# Altium schematic symbol library SamacSys.SchLib: 1311 symbols (part 11 of 14)
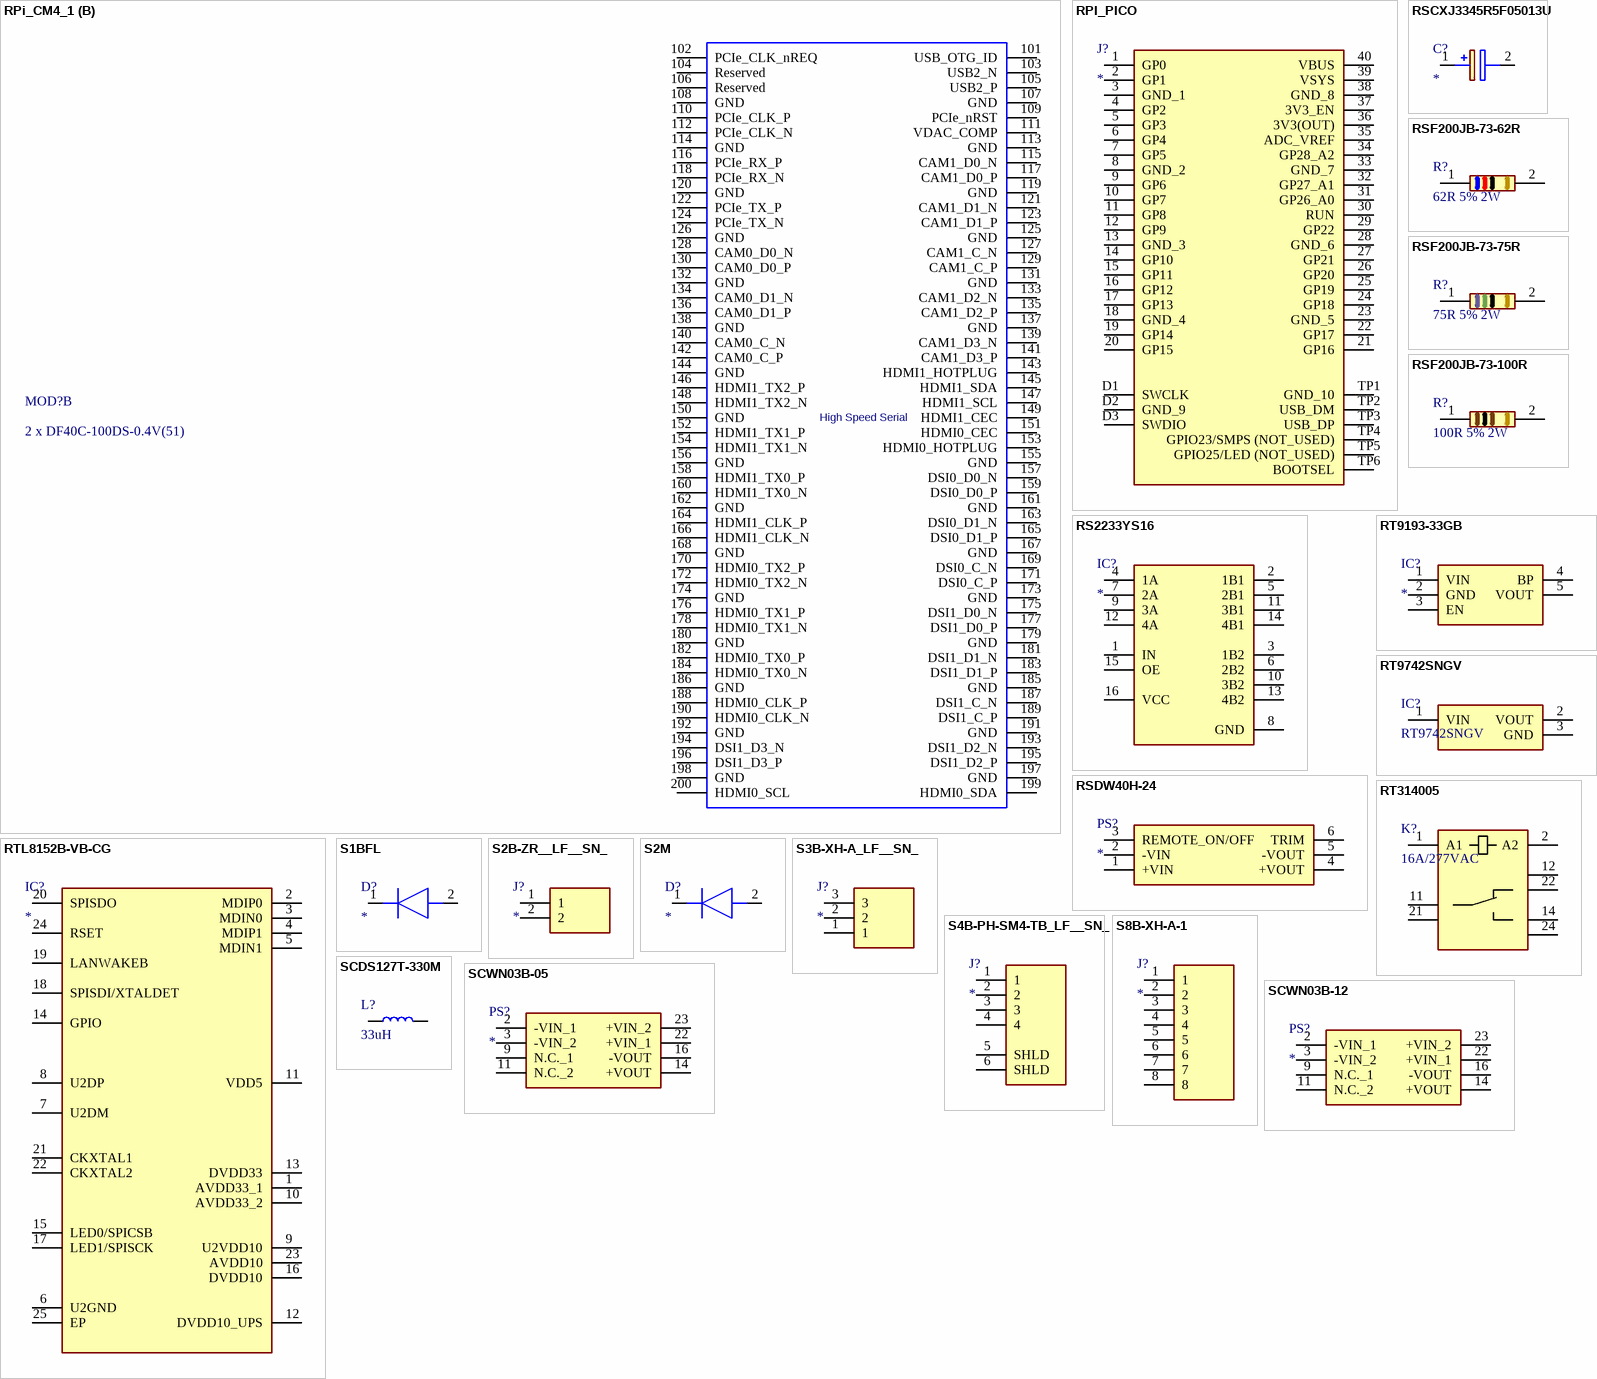
[diagram p60: symbols RPi_CM4_1 to SCWN03B-12]

## RPi_CM4_1
designator MOD?, comment 2 x DF40C-100DS-0.4V(51)
Rapsberry PI Compute Module 4 +
footprint RPI_CM4_con (only connectors)
footprint RPI_CM4_full (with CM4 3D)
footprint RPI_Time4CM4 (2pcs. DF40HC(3.0)-100DS-0.4V)
footprint RPI_CM4_STACKED (with CM4 3D)
part A pins: 1 GND, 2 GND, 3 Ethernet_Pair3_P, 4 Ethernet_Pair1_P, 5 Ethernet_Pair3_N, 6 Ethernet_Pair1_N, 7 GND, 8 GND, 9 Ethernet_Pair2_N, 10 Ethernet_Pair0_N, 11 Ethernet_Pair2_P, 12 Ethernet_Pair0_P, 13 GND, 14 GND, 15 Ethernet_nLED3(3.3v), 16 Ethernet_SYNC_IN(1.8v), 17 Ethernet_nLED2(3.3v), 18 Ethernet_SYNC_OUT(1.8v), 19 Ethernet_nLED1(3.3v), 20 EEPROM_nWP, 21 PI_nLED_Activity, 22 GND, 23 GND, 24 GPIO26, 25 GPIO21, 26 GPIO19, 27 GPIO20, 28 GPIO13, 29 GPIO16, 30 GPIO6, 31 GPIO12, 32 GND, 33 GND, 34 GPIO5, 35 ID_SC, 36 ID_SD, 37 GPIO7, 38 GPIO11, 39 GPIO8, 40 GPIO9, 41 GPIO25, 42 GND, 43 GND, 44 GPIO10, 45 GPIO24, 46 GPIO22, 47 GPIO23, 48 GPIO27, 49 GPIO18, 50 GPIO17, 51 GPIO15, 52 GND, 53 GND, 54 GPIO4, 55 GPIO14, 56 GPIO3, 57 SD_CLK, 58 GPIO2, 59 GND, 60 GND, 61 SD_DAT3, 62 SD_CMD, 63 SD_DAT0, 64 SD_DAT5, 65 GND, 66 GND, 67 SD_DAT1, 68 SD_DAT4, 69 SD_DAT2, 70 SD_DAT7, 71 GND, 72 SD_DAT6, 73 SD_VDD_Override, 74 GND, 75 SD_PWR_ON, 76 Reserved, 77 +5v_(Input), 78 GPIO_VREF(1.8v/3.3v_Input), 79 +5v_(Input), 80 SCL0, 81 +5v_(Input), 82 SDA0, 83 +5v_(Input), 84 +3.3v_(Output), 85 +5v_(Input), 86 +3.3v_(Output), 87 +5v_(Input), 88 +1.8v_(Output), 89 WiFi_nDisable, 90 +1.8v_(Output), 91 BT_nDisable, 92 RUN_PG, 93 nRPIBOOT, 94 AnalogIP0, 95 nPI_LED_PWR, 96 AnalogIP1, 97 Camera_GPIO, 98 GND, 99 Global_EN, 100 nEXTRST
part B pins: 101 USB_OTG_ID, 102 PCIe_CLK_nREQ, 103 USB2_N, 104 Reserved, 105 USB2_P, 106 Reserved, 107 GND, 108 GND, 109 PCIe_nRST, 110 PCIe_CLK_P, 111 VDAC_COMP, 112 PCIe_CLK_N, 113 GND, 114 GND, 115 CAM1_D0_N, 116 PCIe_RX_P, 117 CAM1_D0_P, 118 PCIe_RX_N, 119 GND, 120 GND, 121 CAM1_D1_N, 122 PCIe_TX_P, 123 CAM1_D1_P, 124 PCIe_TX_N, 125 GND, 126 GND, 127 CAM1_C_N, 128 CAM0_D0_N, 129 CAM1_C_P, 130 CAM0_D0_P, 131 GND, 132 GND, 133 CAM1_D2_N, 134 CAM0_D1_N, 135 CAM1_D2_P, 136 CAM0_D1_P, 137 GND, 138 GND, 139 CAM1_D3_N, 140 CAM0_C_N, 141 CAM1_D3_P, 142 CAM0_C_P, 143 HDMI1_HOTPLUG, 144 GND, 145 HDMI1_SDA, 146 HDMI1_TX2_P, 147 HDMI1_SCL, 148 HDMI1_TX2_N, 149 HDMI1_CEC, 150 GND, 151 HDMI0_CEC, 152 HDMI1_TX1_P, 153 HDMI0_HOTPLUG, 154 HDMI1_TX1_N, 155 GND, 156 GND, 157 DSI0_D0_N, 158 HDMI1_TX0_P, 159 DSI0_D0_P, 160 HDMI1_TX0_N, 161 GND, 162 GND, 163 DSI0_D1_N, 164 HDMI1_CLK_P, 165 DSI0_D1_P, 166 HDMI1_CLK_N, 167 GND, 168 GND, 169 DSI0_C_N, 170 HDMI0_TX2_P, 171 DSI0_C_P, 172 HDMI0_TX2_N, 173 GND, 174 GND, 175 DSI1_D0_N, 176 HDMI0_TX1_P, 177 DSI1_D0_P, 178 HDMI0_TX1_N, 179 GND, 180 GND, 181 DSI1_D1_N, 182 HDMI0_TX0_P, 183 DSI1_D1_P, 184 HDMI0_TX0_N, 185 GND, 186 GND, 187 DSI1_C_N, 188 HDMI0_CLK_P, 189 DSI1_C_P, 190 HDMI0_CLK_N, 191 GND, 192 GND, 193 DSI1_D2_N, 194 DSI1_D3_N, 195 DSI1_D2_P, 196 DSI1_D3_P, 197 GND, 198 GND, 199 HDMI0_SDA, 200 HDMI0_SCL
part A text: NB SD signals are only available; on modules without eMMC; 600mA Max
part B text: High Speed Serial

## RPI_PICO
designator J?
Rapsberry PI PICO; Manufacturer_Name: RASPBERRY-PI; Datasheet Link: https://datasheets.raspberrypi.org/pico/pico_datasheet.pdf; Height: 1mm; Manufacturer_Part_Number: PICO
footprint PICO
footprint PICO_CUT PIN
pins: 1 GP0, 2 GP1, 3 GND_1, 4 GP2, 5 GP3, 6 GP4, 7 GP5, 8 GND_2, 9 GP6, 10 GP7, 11 GP8, 12 GP9, 13 GND_3, 14 GP10, 15 GP11, 16 GP12, 17 GP13, 18 GND_4, 19 GP14, 20 GP15, 21 GP16, 22 GP17, 23 GND_5, 24 GP18, 25 GP19, 26 GP20, 27 GP21, 28 GND_6, 29 GP22, 30 RUN, 31 GP26_A0, 32 GP27_A1, 33 GND_7, 34 GP28_A2, 35 ADC_VREF, 36 3V3(OUT), 37 3V3_EN, 38 GND_8, 39 VSYS, 40 VBUS, D1 SWCLK, D2 GND_9, D3 SWDIO, TP1 GND_10, TP2 USB_DM, TP3 USB_DP, TP4 GPIO23/SMPS (NOT_USED), TP5 GPIO25/LED (NOT_USED), TP6 BOOTSEL

## RS2233YS16
designator IC?
4-CH SPDT ANALOG SWTCH; Manufacturer: RUNIC; Part Number: RS2233YS16; Datasheet Link: https://static.chipdip.ru/lib/991/DOC019991430.pdf; Height: 1mm
footprint SOIC127P604X185-16N
pins: 1 IN, 2 1B1, 3 1B2, 4 1A, 5 2B1, 6 2B2, 7 2A, 8 GND, 9 3A, 10 3B2, 11 3B1, 12 4A, 13 4B2, 14 4B1, 15 OE, 16 VCC

## RSCXJ3345R5F05013U
designator C?
Capacitor Polarised; Manufacturer_Name: Elna; Manufacturer_Part_Number: RSCXJ3345R5F05013U; Datasheet Link: https://www.elna.co.jp/en/capacitor/double_layer/catalog/pdf/C-CXJ_e.pdf; Height: 5.5mm; Mouser Part Number: 555-DXJ-5R5H334U; Mouser Price/Stock: https://www.mouser.co.uk/ProductDetail/Elna/RSCXJ3345R5F05013U?qs=4ASt3YYao0W6F8hUkIVoqQ%3D%3D
footprint RSCXJ3345R5F05013U
pins: 1 +, 2 -

## RSDW40H-24
designator PS?
Power Supply; Manufacturer_Name: Mean Well; Manufacturer_Part_Number: RSDW40H-24; Datasheet Link: https://www.meanwell-web.com/en-gb/dc-dc-railway-single-output-converter-input-40-rsdw40h--24; Height: 10.85mm; Mouser Part Number: 709-RSDW40H-24; Mouser Price/Stock: https://www.mouser.co.uk/ProductDetail/MEAN-WELL/RSDW40H-24?qs=7MVldsJ5Uazow7Seohj%252BaA%3D%3D; Arrow Part Number: RSDW40H-24; Arrow Price/Stock: null?region=nac
footprint RSDW40H24
pins: 1 +VIN, 2 -VIN, 3 REMOTE_ON/OFF, 4 +VOUT, 5 -VOUT, 6 TRIM

## RSF200JB-73-62R
designator R?, comment 62R 5% 2W
RES 62 OHM 5% 2W AXIAL; Manufacturer_Name: YAGEO; Manufacturer_Part_Number: RSF200JB-73-62R; Datasheet Link: https://www.mouser.com/datasheet/2/447/Yageo LR_RSF_2013-594715.pdf
footprint RSF200_20mm_800mil
footprint RSF100_12mm_600mil
footprint RSF100_12mm_700mil
pins: 1, 2

## RSF200JB-73-75R
designator R?, comment 75R 5% 2W
RES 75 OHM 5% 2W AXIAL; Manufacturer_Name: YAGEO; Manufacturer_Part_Number: RSF200JB-73-75R; Datasheet Link: https://www.mouser.com/datasheet/2/447/Yageo LR_RSF_2013-594715.pdf
footprint RSF200_20mm_800mil
footprint RSF100_12mm_600mil
footprint RSF100_12mm_700mil
pins: 1, 2

## RSF200JB-73-100R
designator R?, comment 100R 5% 2W
RES 100 OHM 5% 2W AXIAL; Manufacturer_Name: YAGEO; Manufacturer_Part_Number: RSF200JB-100-62R; Datasheet Link: https://www.mouser.com/datasheet/2/447/Yageo LR_RSF_2013-594715.pdf
footprint RSF200_20mm_800mil
footprint RSF100_12mm_600mil
footprint RSF100_12mm_700mil
pins: 1, 2

## RT9193-33GB
designator IC?
Integrated Circuit; Manufacturer_Name: RICHTEK; Manufacturer_Part_Number: RT9193-33GB; Datasheet Link: http://www.richtek.com/assets/product_file/RT9193/DS9193-17.pdf; Height: 1.295mm; Mouser Part Number: 835-RT9193-33GB; Mouser Price/Stock: https://www.mouser.co.uk/ProductDetail/Richtek/RT9193-33GB?qs=amGC7iS6iy8ybRcZ9Wn2ww%3D%3D
footprint SOT94P279X130-5N
pins: 1 VIN, 2 GND, 3 EN, 4 BP, 5 VOUT

## RT9742SNGV
designator IC?
IC POWER SWCH 0.5A; Manufacturer_Name: RICHTEK; Datasheet Link: https://datasheet.lcsc.com/szlcsc/Richtek-Tech-RT9742ANGJ5F_C147955.pdf; Height: 1.295mm; Manufacturer_Part_Number: RT9742SNGV; Mouser Part Number: 835-RT9742SNGV; Mouser Price/Stock: https://www.mouser.co.uk/ProductDetail/Richtek/RT9742SNGV?qs=amGC7iS6iy9IuhGfX55LJA%3D%3D
footprint SOT95P279X130-3N
pins: 1 VIN, 2 VOUT, 3 GND

## RT314005
designator K?, comment 16A/277VAC
Relay, SPDT (1 Form C), 5VDC, 16A/277VAC; Manufacturer_Name: TE Connectivity; Manufacturer_Part_Number: RT314005; Datasheet Link: https://datasheet.datasheetarchive.com/originals/distributors/Datasheets_SAMA/d394eea7eb6e26a1d22fcd5b17749695.pdf; Mouser Part Number: 655-RT314005; Mouser Price/Stock: https://www.mouser.co.uk/ProductDetail/TE-Connectivity-PB/RT314005?qs=J%2FBqzmJdYmtcmp2%2FFwea8A%3D%3D; Arrow Part Number: RT314005; Arrow Price/Stock: https://www.arrow.com/en/products/rt314005/te-connectivity
footprint RT314005_2
pins: 1 A1, 2 A2, 11 1_COM, 12 1_NC, 14 1_NO, 21 2_COM, 22 2_NC, 24 2_NO

## RTL8152B-VB-CG
designator IC?
Integrated Circuit; Manufacturer_Name: Realtek; Manufacturer_Part_Number: RTL8152B-VB-CG; Datasheet Link: https://datasheet.lcsc.com/szlcsc/Realtek-Semicon-RTL8152B-VB-CG_C50656.pdf; Height: 0.9mm
footprint QFN50P400X400X90-25N
pins: 1 AVDD33_1, 2 MDIP0, 3 MDIN0, 4 MDIP1, 5 MDIN1, 6 U2GND, 7 U2DM, 8 U2DP, 9 U2VDD10, 10 AVDD33_2, 11 VDD5, 12 DVDD10_UPS, 13 DVDD33, 14 GPIO, 15 LED0/SPICSB, 16 DVDD10, 17 LED1/SPISCK, 18 SPISDI/XTALDET, 19 LANWAKEB, 20 SPISDO, 21 CKXTAL1, 22 CKXTAL2, 23 AVDD10, 24 RSET, 25 EP

## S1BFL
designator D?
Diode; Manufacturer_Name: onsemi; Manufacturer_Part_Number: S1BFL; Datasheet Link: https://www.onsemi.com/pub/Collateral/S1MFL-D.PDF; Height: 1.08mm; Mouser Part Number: 512-S1BFL; Mouser Price/Stock: https://www.mouser.co.uk/ProductDetail/onsemi-Fairchild/S1BFL?qs=tqW9UTzndZx6%252BbWnP4zYFQ%3D%3D; Arrow Part Number: S1BFL; Arrow Price/Stock: https://www.arrow.com/en/products/s1bfl/on-semiconductor?utm_currency=USD&region=nac
footprint SODFL3617X108N (Footprint not found)
pins: 1 K, 2 A

## S2B-ZR__LF__SN_
designator J?
Connector; Manufacturer_Name: JST (JAPAN SOLDERLESS TERMINALS); Manufacturer_Part_Number: S2B-ZR (LF)(SN); Datasheet Link: http://uk.rs-online.com/web/p/products/7620765; Height: 3.7mm
footprint SHDRRA2W50P0X150_1X2_450X600X370P
pins: 1, 2

## S2M
designator D?
Diode; Manufacturer_Name: onsemi; Manufacturer_Part_Number: S2M; Datasheet Link: https://www.onsemi.com/pub/Collateral/S2M-D.pdf; Height: 2.65mm; Mouser Part Number: 512-S2M; Mouser Price/Stock: https://www.mouser.co.uk/ProductDetail/onsemi-Fairchild/S2M?qs=a0wxjULRyoFPR8XEAEgF8g%3D%3D; Arrow Part Number: S2M; Arrow Price/Stock: https://www.arrow.com/en/products/s2m/on-semiconductor?region=nac
footprint DIOM5336X265N
pins: 1 K, 2 A

## S3B-XH-A_LF__SN_
designator J?
Connector; Manufacturer_Name: JST (JAPAN SOLDERLESS TERMINALS); Manufacturer_Part_Number: S3B-XH-A(LF)(SN); Datasheet Link: https://datasheet.lcsc.com/szlcsc/JST-Sales-America-XHsocket-1-3P-Curved-needle-pitch2-5mm_C157928.pdf; Height: 6.1mm; Arrow Part Number: S3B-XH-A(LF)(SN); Arrow Price/Stock: https://www.arrow.com/en/products/s3b-xh-a-lf-sn/jst-manufacturing?region=europe
footprint S3BXHALFSN
pins: 1, 2, 3

## S4B-PH-SM4-TB_LF__SN_
designator J?
Connector; Manufacturer_Name: JST (JAPAN SOLDERLESS TERMINALS); Manufacturer_Part_Number: S4B-PH-SM4-TB(LF)(SN); Datasheet Link: http://uk.rs-online.com/web/p/products/6881366; Arrow Part Number: S4B-PH-SM4-TB(LF)(SN); Arrow Price/Stock: https://www.arrow.com/en/products/s4b-ph-sm4-tb-lf-sn/jst-manufacturing
footprint S4B-PH-SM4-TB
pins: 1, 2, 3, 4, 5 SHLD, 6 SHLD

## S8B-XH-A-1
designator J?
Connector; Manufacturer_Name: JST (JAPAN SOLDERLESS TERMINALS); Manufacturer_Part_Number: S8B-XH-A-1(LF)(SN); Datasheet Link: http://www.jst-mfg.com/product/pdf/eng/eXH.pdf; Height: 6.1mm; Mouser Part Number: 306-S8BXHA1LFSN; Mouser Price/Stock: https://www.mouser.co.uk/ProductDetail/JST-Commercial/S8B-XH-A-1LFSN?qs=QpmGXVUTftFKLlmLzIYjBQ%3D%3D; Arrow Part Number: S8B-XH-A-1(LF)(SN); Arrow Price/Stock: https://www.arrow.com/en/products/s8b-xh-a-1-lf-sn/jst-manufacturing?region=europe
footprint S8BXHA1LFSN (Footprint not found)
pins: 1, 2, 3, 4, 5, 6, 7, 8

## SCDS127T-330M
designator L?, comment 33uH
SMT Inductor; Rated Current: 3A; Value: 33uH
footprint SCDS127T
pins: 1, 2

## SCWN03B-05
designator PS?
Power Supply; Manufacturer_Name: Mean Well; Manufacturer_Part_Number: SCWN03B-05; Datasheet Link: https://www.meanwell.com/Upload/PDF/SCWN03/SCWN03,DCWN03-SPEC.PDF; Height: 10.7mm; Mouser Part Number: 709-SCWN03B-05; Mouser Price/Stock: https://www.mouser.co.uk/ProductDetail/MEAN-WELL/SCWN03B-05?qs=5aG0NVq1C4wXjo7bZhDzjQ%3D%3D; Arrow Part Number: SCWN03B-05; Arrow Price/Stock: null?region=nac
footprint SCWN03B05
pins: 2 -VIN_1, 3 -VIN_2, 9 N.C._1, 11 N.C._2, 14 +VOUT, 16 -VOUT, 22 +VIN_1, 23 +VIN_2

## SCWN03B-12
designator PS?
Power Supply; Manufacturer_Name: Mean Well; Manufacturer_Part_Number: SCWN03B-12; Datasheet Link: https://www.meanwellusa.com/upload/pdf/SCWN03/SCWN03,DCWN03-spec.pdf; Height: 10.7mm; Mouser Part Number: 709-SCWN03B-12; Mouser Price/Stock: https://www.mouser.co.uk/ProductDetail/MEAN-WELL/SCWN03B-12?qs=5aG0NVq1C4xHYEqRKrsjkw%3D%3D; Arrow Part Number: SCWN03B-12; Arrow Price/Stock: https://www.arrow.com/en/products/scwn03b-12/mean-well-enterprises?utm_currency=USD&region=nac
footprint SCWN03B12
pins: 2 -VIN_1, 3 -VIN_2, 9 N.C._1, 11 N.C._2, 14 +VOUT, 16 -VOUT, 22 +VIN_1, 23 +VIN_2

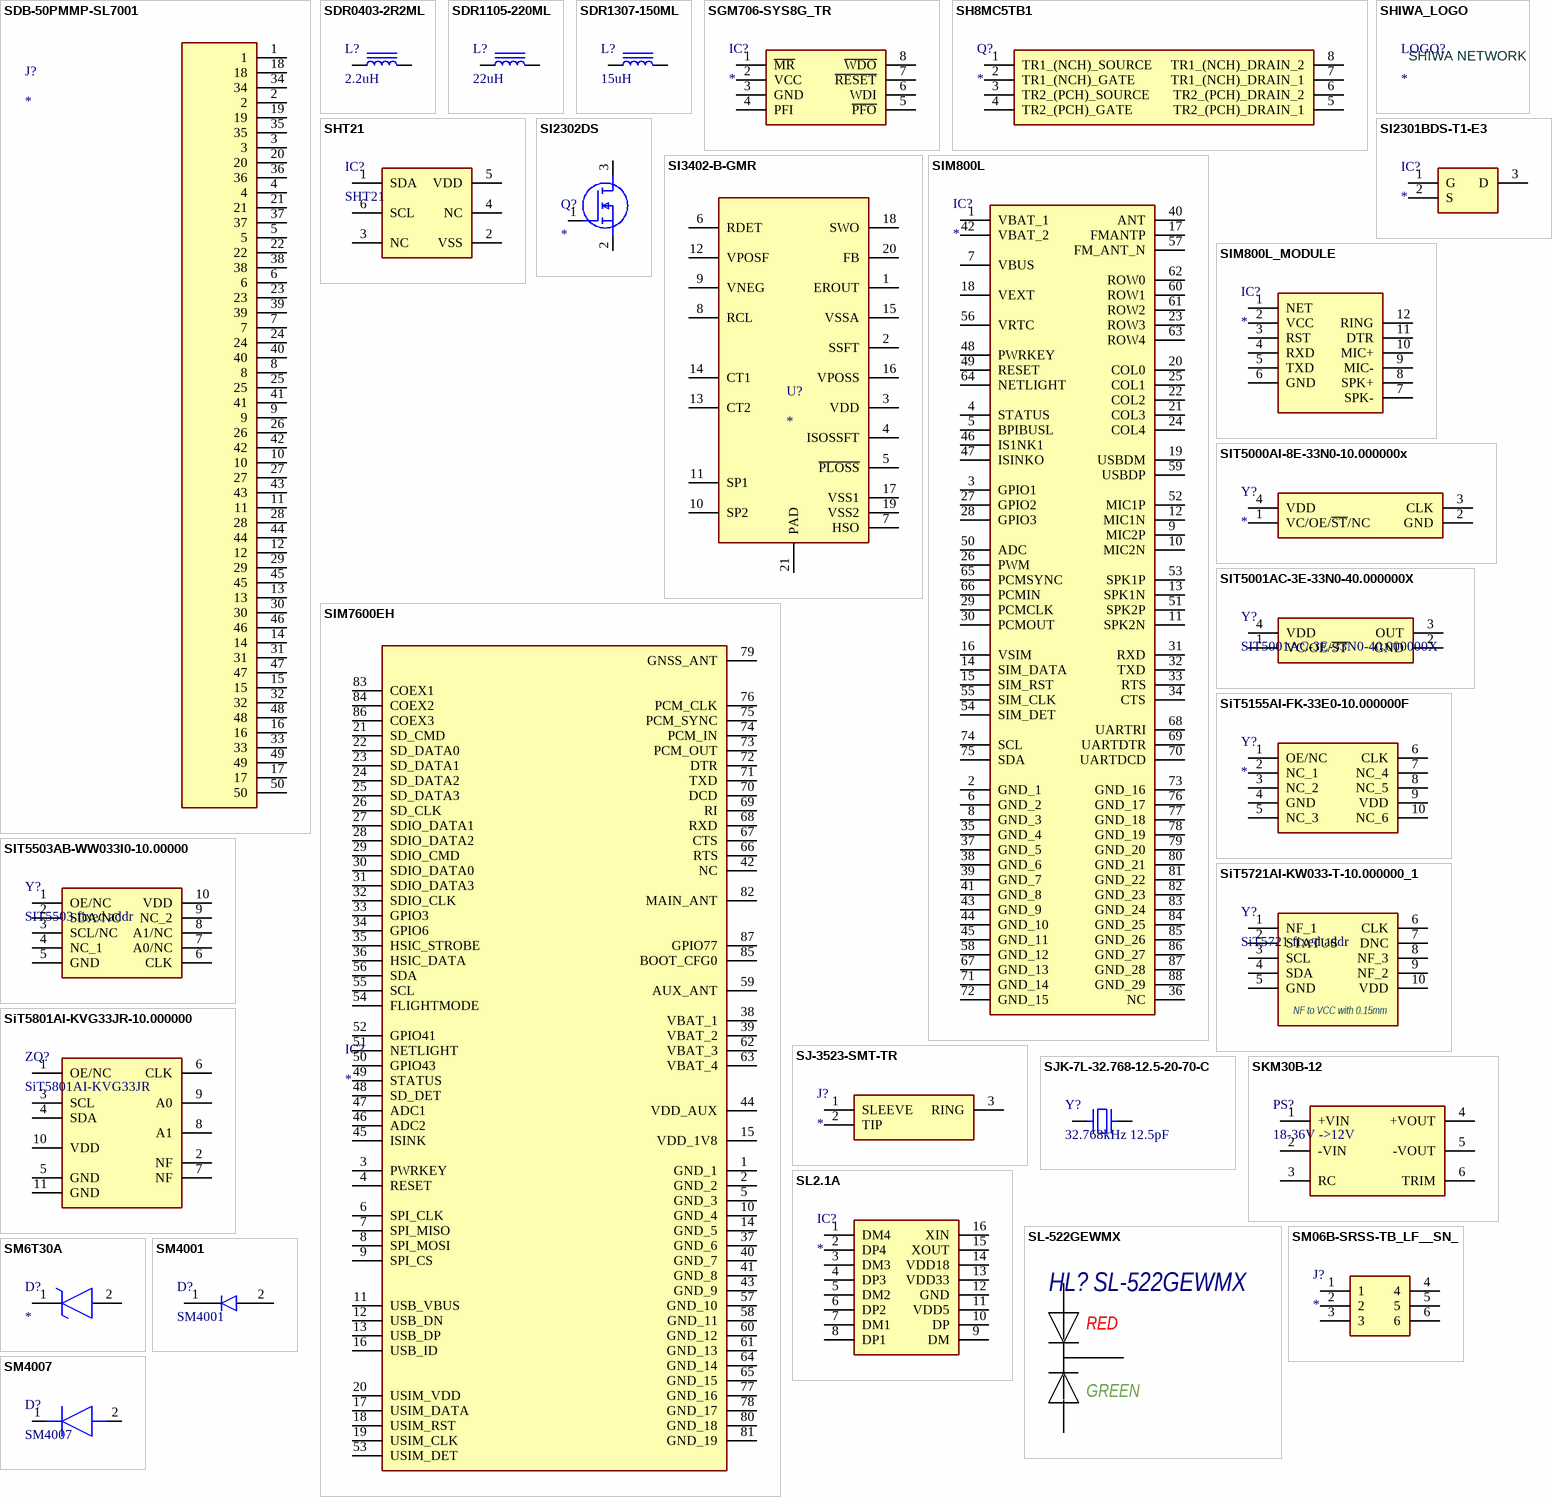
[diagram p38: symbols SDB-50PMMP-SL7001 to SM4007]

## SDB-50PMMP-SL7001
designator J?
Connector; Manufacturer_Name: Amphenol; Manufacturer_Part_Number: SDB-50PMMP-SL7001; Datasheet Link: http://www.amphenolltw.com/2012download/2D%20PDF/06_D-SUB%20Connectors/SDB-50PMMP-SL7001.pdf; Mouser Part Number: 523-SDB50PMMPSL7001; Mouser Price/Stock: https://www.mouser.co.uk/ProductDetail/Amphenol-LTW/SDB-50PMMP-SL7001?qs=Wmhir8UuqEk0U9TObiRlQA%3D%3D
footprint SDB50PMMPSL7001
pins: 1, 2, 3, 4, 5, 6, 7, 8, 9, 10, 11, 12, 13, 14, 15, 16, 17, 18, 19, 20, 21, 22, 23, 24, 25, 26, 27, 28, 29, 30, 31, 32, 33, 34, 35, 36, 37, 38, 39, 40, 41, 42, 43, 44, 45, 46, 47, 48, 49, 50

## SDR0403-2R2ML
designator L?, comment 2.2uH
SMT Inductor; Manufacturer: Bourns; Current: 2.6A; Tolerance: 20%; Value: 2.2uH
footprint SDR0403
pins: 1, 2

## SDR1105-220ML
designator L?, comment 22uH
SMT Inductor; Manufacturer: Bourns; Current: 3A; Tolerance: 20%; Value: 22uH
footprint SDR1105
pins: 1, 2

## SDR1307-150ML
designator L?, comment 15uH
SMT Inductor; Value: 15uH
footprint SDR1307-220ML
pins: 1, 2

## SGM706-SYS8G_TR
designator IC?
Integrated Circuit; Manufacturer_Name: SGMICRO; Manufacturer_Part_Number: SGM706-SYS8G/TR; Datasheet Link: https://datasheet.lcsc.com/lcsc/1810231325_SGMICRO-SGM706-SYS8G-TR_C80062.pdf; Height: 1.75mm
footprint SOIC127P600X175-8N
pins: 1 ~{MR}, 2 VCC, 3 GND, 4 PFI, 5 ~{PFO}, 6 WDI, 7 ~{RESET}, 8 ~{WDO}

## SH8MC5TB1
designator Q?
MOSFET (N-Channel); Manufacturer_Name: ROHM Semiconductor; Manufacturer_Part_Number: SH8MC5TB1; Datasheet Link: https://fscdn.rohm.com/en/products/databook/datasheet/discrete/transistor/mosfet/sh8mc5tb1-e.pdf; Height: 1.75mm; Mouser Part Number: 755-SH8MC5TB1; Mouser Price/Stock: https://www.mouser.co.uk/ProductDetail/ROHM-Semiconductor/SH8MC5TB1?qs=QNEnbhJQKvamigFoyVNsNg%3D%3D
footprint SOIC127P600X175-8N
pins: 1 TR1_(NCH)_SOURCE, 2 TR1_(NCH)_GATE, 3 TR2_(PCH)_SOURCE, 4 TR2_(PCH)_GATE, 5 TR2_(PCH)_DRAIN_1, 6 TR2_(PCH)_DRAIN_2, 7 TR1_(NCH)_DRAIN_1, 8 TR1_(NCH)_DRAIN_2

## SHIWA_LOGO
designator LOGO?  (graphical)
SHIWA NETWORK Logo
footprint SHIWA_LOGO_SOLID_15
text: SHIWA NETWORK

## SHT21
designator IC?
Temerature sensor, I2C; Manufacturer_Name: Sensirion; Datasheet Link: https://static.chipdip.ru/lib/891/DOC011891260.pdf; Height: 1.1mm; Manufacturer_Part_Number: SHT21
footprint DFN-6_3x3
pins: 1 SDA, 2 VSS, 3 NC, 4 NC, 5 VDD, 6 SCL

## SI2301BDS-T1-E3
designator IC?
Integrated Circuit; Manufacturer_Name: Vishay; Manufacturer_Part_Number: SI2301BDS-T1-E3; Datasheet Link: http://www.vishay.com/docs/72066/si2301bds.pdf; Height: 1.12mm; Mouser Part Number: 781-SI2301BDS-E3; Mouser Price/Stock: https://www.mouser.co.uk/ProductDetail/Vishay-Semiconductors/SI2301BDS-T1-E3?qs=jcx%252B0HVgj2bcZDTG4vN6Zg%3D%3D; Arrow Part Number: SI2301BDS-T1-E3; Arrow Price/Stock: https://www.arrow.com/en/products/si2301bds-t1-e3/vishay?region=nac
footprint SOT95P237X112-3N
pins: 1 G, 2 S, 3 D

## SI2302DS
designator Q?
MOSFET (N-Channel); Manufacturer_Name: Nexperia; Manufacturer_Part_Number: SI2302DS; Datasheet Link: https://assets.nexperia.com/documents/data-sheet/SI2302DS.pdf; Height: 1.1mm; Mouser Part Number: N/A; Mouser Price/Stock: https://www.mouser.com/Search/Refine.aspx?Keyword=N%2FA
footprint SOT95P230X110-3N
pins: 1 G, 2 S, 3 D

## SI3402-B-GMR
designator U?
Integrated Circuit; Manufacturer_Name: Silicon Labs; Manufacturer_Part_Number: SI3402-B-GMR; Datasheet Link: https://www.silabs.com/documents/public/data-sheets/si3404-datasheet.pdf; Height: 0.9mm; Mouser Part Number: 634-SI3402-B-GMR; Mouser Price/Stock: https://www.mouser.co.uk/ProductDetail/Silicon-Labs/SI3402-B-GMR?qs=Z7P4xsdcg2K5bfc7FcxMNA%3D%3D; Arrow Part Number: SI3402-B-GMR; Arrow Price/Stock: https://www.arrow.com/en/products/si3402-b-gmr/silicon-labs
footprint QFN80P500X500X90-21N-D
pins: 1 EROUT, 2 SSFT, 3 VDD, 4 ISOSSFT, 5 ~{PLOSS}, 6 RDET, 7 HSO, 8 RCL, 9 VNEG, 10 SP2, 11 SP1, 12 VPOSF, 13 CT2, 14 CT1, 15 VSSA, 16 VPOSS, 17 VSS1, 18 SWO, 19 VSS2, 20 FB, 21 PAD

## SIM800L
designator IC?
Integrated Circuit; Manufacturer_Name: SIMCOM; Manufacturer_Part_Number: SIM800L; Datasheet Link: http://img.filipeflop.com/files/download/Datasheet_SIM800L.pdf; Height: 2.55mm
footprint SIM800L
pins: 1 VBAT_1, 2 GND_1, 3 GPIO1, 4 STATUS, 5 BPIBUSL, 6 GND_2, 7 VBUS, 8 GND_3, 9 MIC2P, 10 MIC2N, 11 SPK2N, 12 MIC1N, 13 SPK1N, 14 SIM_DATA, 15 SIM_RST, 16 VSIM, 17 FMANTP, 18 VEXT, 19 USBDM, 20 COL0, 21 COL3, 22 COL2, 23 ROW3, 24 COL4, 25 COL1, 26 PWM, 27 GPIO2, 28 GPIO3, 29 PCMCLK, 30 PCMOUT, 31 RXD, 32 TXD, 33 RTS, 34 CTS, 35 GND_4, 36 NC, 37 GND_5, 38 GND_6, 39 GND_7, 40 ANT, 41 GND_8, 42 VBAT_2, 43 GND_9, 44 GND_10, 45 GND_11, 46 IS1NK1, 47 ISINKO, 48 PWRKEY, 49 RESET, 50 ADC, 51 SPK2P, 52 MIC1P, 53 SPK1P, 54 SIM_DET, 55 SIM_CLK, 56 VRTC, 57 FM_ANT_N, 58 GND_12, 59 USBDP, 60 ROW1, 61 ROW2, 62 ROW0, 63 ROW4, 64 NETLIGHT, 65 PCMSYNC, 66 PCMIN, 67 GND_13, 68 UARTRI, 69 UARTDTR, 70 UARTDCD, 71 GND_14, 72 GND_15, 73 GND_16, 74 SCL, 75 SDA, 76 GND_17, 77 GND_18, 78 GND_19, 79 GND_20, 80 GND_21, 81 GND_22, 82 GND_23, 83 GND_24, 84 GND_25, 85 GND_26, 86 GND_27, 87 GND_28, 88 GND_29

## SIM800L_MODULE
designator IC?
GSM module; Manufacturer_Part_Number: SIM800L_MODULE
footprint SIM800L_MODULE
footprint SIM800L_MODULE-wo1pin
pins: 1 NET, 2 VCC, 3 RST, 4 RXD, 5 TXD, 6 GND, 7 SPK-, 8 SPK+, 9 MIC-, 10 MIC+, 11 DTR, 12 RING

## SIM7600EH
designator IC?
Integrated Circuit; Manufacturer_Name: SIMCOM; Manufacturer_Part_Number: SIM7600EH; Datasheet Link: https://www.waveshare.com/w/upload/f/fd/SIM7600_Series_Hardware_Design_V1.02.pdf; Height: 3.1mm
footprint SIM7600EH
pins: 1 GND_1, 2 GND_2, 3 PWRKEY, 4 RESET, 5 GND_3, 6 SPI_CLK, 7 SPI_MISO, 8 SPI_MOSI, 9 SPI_CS, 10 GND_4, 11 USB_VBUS, 12 USB_DN, 13 USB_DP, 14 GND_5, 15 VDD_1V8, 16 USB_ID, 17 USIM_DATA, 18 USIM_RST, 19 USIM_CLK, 20 USIM_VDD, 21 SD_CMD, 22 SD_DATA0, 23 SD_DATA1, 24 SD_DATA2, 25 SD_DATA3, 26 SD_CLK, 27 SDIO_DATA1, 28 SDIO_DATA2, 29 SDIO_CMD, 30 SDIO_DATA0, 31 SDIO_DATA3, 32 SDIO_CLK, 33 GPIO3, 34 GPIO6, 35 HSIC_STROBE, 36 HSIC_DATA, 37 GND_6, 38 VBAT_1, 39 VBAT_2, 40 GND_7, 41 GND_8, 42 NC, 43 GND_9, 44 VDD_AUX, 45 ISINK, 46 ADC2, 47 ADC1, 48 SD_DET, 49 STATUS, 50 GPIO43, 51 NETLIGHT, 52 GPIO41, 53 USIM_DET, 54 FLIGHTMODE, 55 SCL, 56 SDA, 57 GND_10, 58 GND_11, 59 AUX_ANT, 60 GND_12, 61 GND_13, 62 VBAT_3, 63 VBAT_4, 64 GND_14, 65 GND_15, 66 RTS, 67 CTS, 68 RXD, 69 RI, 70 DCD, 71 TXD, 72 DTR, 73 PCM_OUT, 74 PCM_IN, 75 PCM_SYNC, 76 PCM_CLK, 77 GND_16, 78 GND_17, 79 GNSS_ANT, 80 GND_18, 81 GND_19, 82 MAIN_ANT, 83 COEX1, 84 COEX2, 85 BOOT_CFG0, 86 COEX3, 87 GPIO77

## SIT5000AI-8E-33N0-10.000000x
designator Y?
Crystal or Oscillator; Manufacturer_Name: SiTime; Manufacturer_Part_Number: SIT5000AI-8E-33N0-10.000000x; Datasheet Link: https://www.sitime.com/datasheet/SiT5000; Height: 1mm; Mouser Part Number: 788-SIT5000AI8E3N10; Mouser Price/Stock: https://www.mouser.co.uk/ProductDetail/SiTime/SIT5000AI-8E-33N0-10000000x/?qs=GedFDFLaBXFLKNanSjMXgQ%3D%3D
footprint SIT5000AI8E33N010000000x
pins: 1 VC/OE/~{ST}/NC, 2 GND, 3 CLK, 4 VDD

## SIT5001AC-3E-33N0-40.000000X
designator Y?
Crystal or Oscillator; Manufacturer_Name: SiTime; Description: 1-80 MHz MEMS TCXO and VCTCXO; Datasheet Link: https://www.sitime.com/support/resource-library/datasheets/sit5001-datasheet; Height: 0.8mm; Manufacturer_Part_Number: SIT5001AC-3E-33N0-40.000000X
footprint QFN_3225_4pins (Footprint not found)
pins: 1 VC/OE/~{ST}, 2 GND, 3 OUT, 4 VDD

## SiT5155AI-FK-33E0-10.000000F
designator Y?
Crystal or Oscillator; Manufacturer_Name: SiTime; Manufacturer_Part_Number: SiT5155AI-FK-33E0-10.000000F; Datasheet Link: https://www.mouser.cn/datasheet/2/371/SiT5155_datasheet-1371837.pdf; Height: 1.06mm; Mouser Part Number: 788-5155AIFK33E0100F; Mouser Price/Stock: https://www.mouser.co.uk/ProductDetail/SiTime/SiT5155AI-FK-33E0-10.000000F?qs=BJlw7L4Cy7%252B3BOCTl0ucGA%3D%3D
footprint SiT5155AIFK33E010000000F
pins: 1 OE/NC, 2 NC_1, 3 NC_2, 4 GND, 5 NC_3, 6 CLK, 7 NC_4, 8 NC_5, 9 VDD, 10 NC_6

## SIT5503AB-WW033I0-10.00000
designator Y?, comment SIT5503 fixed addr
Oscillator, WW*33 - any digit or letter (not "-"), 33J* - B, M, Q, R, T (50ppm and better); Manufacturer_Name: SiTime; Manufacturer_Part_Number: SIT5503AB-WW033I0-10.00000; Height: 2.2mm
footprint Ceramic_QFN_7050_10pins
pins: 1 OE/NC, 2 SDA/NC, 3 SCL/NC, 4 NC_1, 5 GND, 6 CLK, 7 A0/NC, 8 A1/NC, 9 NC_2, 10 VDD

## SiT5721AI-KW033-T-10.000000_1
designator Y?, comment SiT5721 fixed addr
Oscillator, KW*33 - any digit or letter (not "-"); Manufacturer_Name: SiTime; Manufacturer_Part_Number: SiT5721AI-KW033-T-10; Datasheet Link: https://www.sitime.com/support/resource-library/datasheets/sit5711-datasheet; Height: 6.19mm
footprint Emerald_9070_10pins_2022
pins: 1 NF_1, 2 STATUS, 3 SCL, 4 SDA, 5 GND, 6 CLK, 7 DNC, 8 NF_3, 9 NF_2, 10 VDD
text: NF to VCC with 0.15mm

## SiT5801AI-KVG33JR-10.000000
designator ZQ?, comment SiT5801AI-KVG33JR
OSC, 10 MHz, Industrial, STAB +-3ppb, CLAMP +-10ppm, I2C ADDR Mode, 3,3V; Manufacturer_Name: SiTime; Manufacturer_Part_Number: SiT5801AI-KVG33JR-10.000000; Datasheet Link: https://www.sitime.com/support/resource-library/datasheets/sit5711-datasheet; Height: 3.6mm
footprint SIT_9*7_11pins_wEP
pins: 1 OE/NC, 2 NF, 3 SCL, 4 SDA, 5 GND, 6 CLK, 7 NF, 8 A1, 9 A0, 10 VDD, 11 GND

## SJ-3523-SMT-TR
designator J?
Connector; Manufacturer_Name: CUI Inc.; Manufacturer_Part_Number: SJ-3523-SMT-TR; Datasheet Link: https://www.mouser.de/datasheet/2/670/sj_352x_smt-1779397.pdf; Height: 5.2mm; Mouser Part Number: 490-SJ-3523-SMT-TR; Mouser Price/Stock: https://www.mouser.co.uk/ProductDetail/CUI-Devices/SJ-3523-SMT-TR?qs=WyjlAZoYn51zOHzJ3r4ZRA%3D%3D; Arrow Part Number: SJ-3523-SMT-TR; Arrow Price/Stock: https://www.arrow.com/en/products/sj-3523-smt-tr/cui-devices?region=nac
footprint SJ3523SMTTR
pins: 1 SLEEVE, 2 TIP, 3 RING

## SJK-7L-32.768-12.5-20-70-C
designator Y?, comment 32.768kHz 12.5pF
Crystal or Oscillator; Manufacturer_Name: Epson Timing; Manufacturer_Part_Number: FC-135 32.7680KA-A3; Datasheet Link: https://support.epson.biz/td/api/doc_check.php?dl=brief_FC-135&lang=en; Height: 0.9mm; Mouser Part Number: 732-FC-13532.76KAA3; Mouser Price/Stock: https://www.mouser.co.uk/ProductDetail/Epson-Timing/FC-135-32.7680KA-A0?qs=tC2qD9afNgrMeRwy3OalUw%3D%3D; Arrow Part Number: FC-135 32.7680KA-A3; Arrow Price/Stock: https://www.arrow.com/en/products/fc-13532.7680ka-a0/epson-electronics-america?region=nac
footprint SJK-7L (Footprint not found)
pins: 1, 2

## SKM30B-12
designator PS?, comment 18-36V ->12V
DC/DC, 30Вт, Uвх: 18-36В, Uвых: 12ВDC, Iвых: 2,5А / A: 9 ~ 18VDC B: 18 ~ 36VDC C: 36 ~ 75VDC; Manufacturer_Name: Mean Well; Manufacturer_Part_Number: SKM30B-12; Datasheet Link: https://static.chipdip.ru/lib/784/DOC059784426.pdf; Height: 12; Mouser Part Number: 709-DPU01N-12; Mouser Price/Stock: https://www.mouser.co.uk/ProductDetail/MEAN-WELL/DPU01N-12?qs=5aG0NVq1C4yTyMl3DWRvqA%3D%3D; Arrow Part Number: DPU01N-12; Arrow Price/Stock: https://www.arrow.com/en/products/dpu01n-12/mean-well-enterprises
footprint SKM30 (DC/DC, 30W)
pins: 1 +VIN, 2 -VIN, 3 RC, 4 +VOUT, 5 -VOUT, 6 TRIM

## SL2.1A
designator IC?
Integrated Circuit; Manufacturer_Name: CoreChips ShenZhen CO.,Ltd; Manufacturer_Part_Number: SL2.1A; Datasheet Link: https://datasheet.lcsc.com/szlcsc/1811151645_CoreChips-SL2-1A_C192893.pdf; Height: 1.85mm
footprint SOIC127P604X185-16N
pins: 1 DM4, 2 DP4, 3 DM3, 4 DP3, 5 DM2, 6 DP2, 7 DM1, 8 DP1, 9 DM, 10 DP, 11 VDD5, 12 GND, 13 VDD33, 14 VDD18, 15 XOUT, 16 XIN

## SL-522GEWMX
designator HL?
LED BI-COLOR 5mm; Type: Индикатор единичный; Published: 03.12.2013; Publisher: Артем Голубев
footprint LED_DUAL_5mm (LED 5MM, BI-COLOR)
pins: 1 А_R "Анод", 2 К "Катод", 3 А_G "Анод"
1 alternate drawing of the same symbol
text: RED; GREEN

## SM06B-SRSS-TB_LF__SN_
designator J?
Connector; Manufacturer_Name: JST (JAPAN SOLDERLESS TERMINALS); Manufacturer_Part_Number: SM06B-SRSS-TB(LF)(SN); Datasheet Link: http://www.jst-mfg.com/product/pdf/eng/eSH.pdf; Arrow Part Number: SM06B-SRSS-TB(LF)(SN); Arrow Price/Stock: https://www.arrow.com/en/products/sm06b-srss-tb-lf-sn/jst-manufacturing?region=europe
footprint SM06B-SRSS-B
pins: 1, 2, 3, 4, 5, 6

## SM6T30A
designator D?
TVS Diode (Uni-directional); Manufacturer_Name: STMicroelectronics; Manufacturer_Part_Number: SM6T30A; Datasheet Link: https://www.st.com/resource/en/datasheet/sm6t100a.pdf; Height: 2.65mm; Mouser Part Number: 511-SM6T30A; Mouser Price/Stock: https://www.mouser.co.uk/ProductDetail/STMicroelectronics/SM6T30A?qs=Mu9A%252BxKg3hRUY0KZ5jUdPA%3D%3D; Arrow Part Number: SM6T30A; Arrow Price/Stock: https://www.arrow.com/en/products/sm6t30a/stmicroelectronics
footprint DIOM5436X265N
pins: 1 K, 2 A

## SM4001
designator D?
Diode; Manufacturer_Name: Diotec; Datasheet Link: https://static.chipdip.ru/lib/506/DOC008506449.pdf; Manufacturer_Part_Number: SM4001
footprint Melf/DO-213AB
pins: 1 K, 2 A

## SM4007
designator D?
Diode, 1000V, 1A, / Melf/DO-213AB; Manufacturer_Name: Rectron; Manufacturer_Part_Number: SM4007-W; Datasheet Link: https://componentsearchengine.com/Datasheets/1/SM4007-W.pdf; Mouser Part Number: 583-SM4007; Mouser Price/Stock: https://www.mouser.co.uk/ProductDetail/Rectron/SM4007-W?qs=Eu63EZxBwKLdRxdF7bUaug%3D%3D; Arrow Part Number: SM4007-W; Arrow Price/Stock: null?region=nac; Package: Melf/DO-213AB
footprint Melf/DO-213AB
pins: 1 K, 2 A

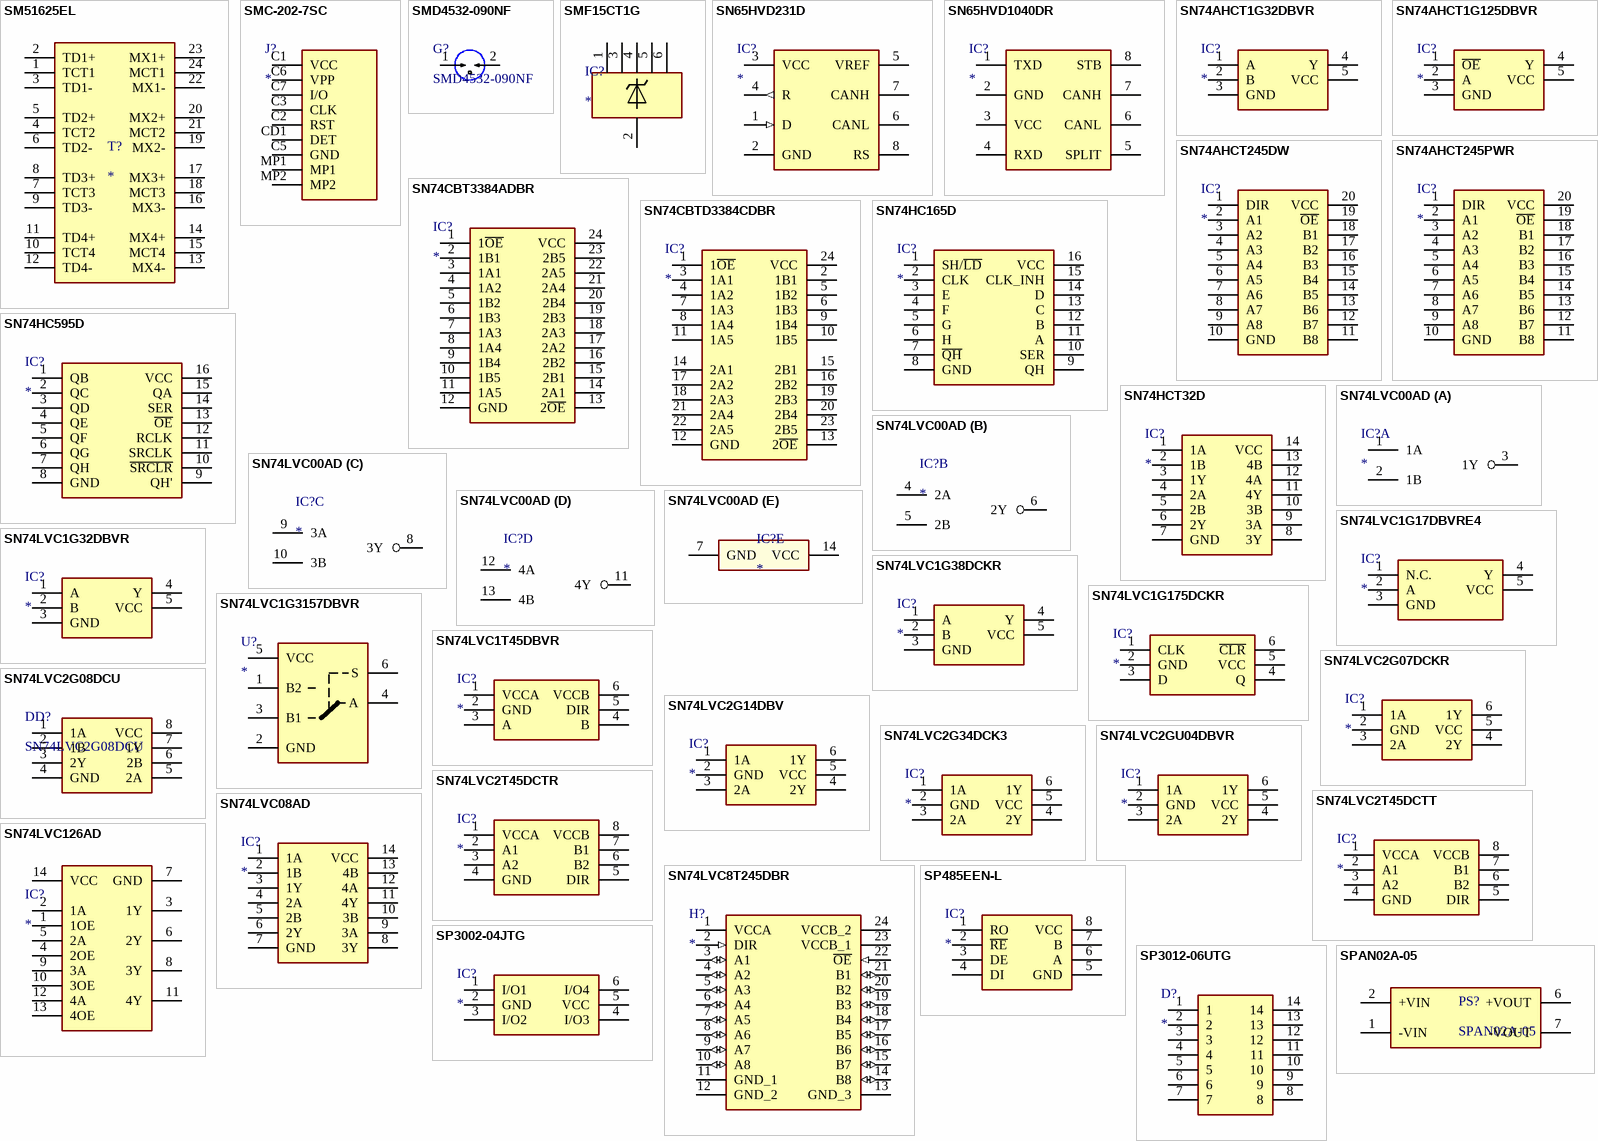
[diagram p39: symbols SM51625EL to SPAN02A-05]

## SM51625EL
designator T?
10ÂµH LAN Pulse Transformer 1:1 Surface Mount; MF: Bourns; MP: SM51625EL; SnapEDA_Link: https://www.snapeda.com/parts/SM51625EL/Bourns/view-part/1237798/?ref=snap; Price: None; Check_prices: https://www.snapeda.com/parts/SM51625EL/Bourns/view-part/1237798/?ref=eda; Purchase-URL: https://pricing.snapeda.com/search/part/SM51625EL/?ref=eda; Value: *; Availability: Good; Package: None
footprint XFMR_SM51625EL
pins: 1 TCT1, 2 TD1+, 3 TD1-, 4 TCT2, 5 TD2+, 6 TD2-, 7 TCT3, 8 TD3+, 9 TD3-, 10 TCT4, 11 TD4+, 12 TD4-, 13 MX4-, 14 MX4+, 15 MCT4, 16 MX3-, 17 MX3+, 18 MCT3, 19 MX2-, 20 MX2+, 21 MCT2, 22 MX1-, 23 MX1+, 24 MCT1

## SMC-202-7SC
designator J?
Connector; Manufacturer_Name: XUNPU; Manufacturer_Part_Number: SMC-202-7SC; Datasheet Link: https://datasheet.lcsc.com/szlcsc/XUNPU-SMC-202-7SC_C266636.pdf; Height: 1.54mm
footprint SMC2027SC
pins: C1 VCC, C2 RST, C3 CLK, C5 GND, C6 VPP, C7 I/O, CD1 DET, MP1, MP2

## SMD4532-090NF
designator G?
GDT 90V 2KA 2 POLE SMD; Manufacturer_Name: RUILON; Datasheet Link: https://www.lcsc.com/datasheet/lcsc_datasheet_2403080959_RUILON-Shenzhen-Ruilongyuan-Elec-SMD4532-090NF_C9235.pdf; Height: 3mm; Manufacturer_Part_Number: SMD4532-090NF; LCSC: C9235
footprint GDT4532 (Footprint not found)
pins: 1, 2

## SMF15CT1G
designator IC?
Integrated Circuit; Manufacturer_Name: onsemi; Manufacturer_Part_Number: SMF15CT1G; Datasheet Link: http://www.onsemi.com/pub/Collateral/SMF05C-D.PDF; Height: 1.1mm; Mouser Part Number: 863-SMF15CT1G; Mouser Price/Stock: https://www.mouser.co.uk/ProductDetail/onsemi/SMF15CT1G?qs=xZq1yRCsb1fldVUsMHsAIA%3D%3D; Arrow Part Number: SMF15CT1G; Arrow Price/Stock: https://www.arrow.com/en/products/smf15ct1g/on-semiconductor?region=nac
footprint SOT65P210X110-6N
pins: 1 K_1, 2 A, 3 K_2, 4 K_3, 5 K_4, 6 K_5

## SN65HVD231D
designator IC?
Integrated Circuit, CAN Transceiver; Manufacturer_Name: Texas Instruments; Manufacturer_Part_Number: SN65HVD231D; Datasheet Link: http://www.ti.com/lit/ds/symlink/sn65hvd230.pdf; Height: 1.75mm; Mouser Part Number: 595-SN65HVD231D; Mouser Price/Stock: https://www.mouser.co.uk/ProductDetail/Texas-Instruments/SN65HVD231D?qs=QViXGNcIEAsYeC9x726Emw%3D%3D; Arrow Part Number: SN65HVD231D; Arrow Price/Stock: https://www.arrow.com/en/products/sn65hvd231d/texas-instruments?region=nac
footprint SOIC127P600X175-8N
pins: 1 D (in), 2 GND, 3 VCC, 4 R (out), 5 VREF, 6 CANL, 7 CANH, 8 RS

## SN65HVD1040DR
designator IC?
Integrated Circuit; Manufacturer_Name: Texas Instruments; Manufacturer_Part_Number: SN65HVD1040DR; Datasheet Link: http://www.ti.com/lit/gpn/sn65hvd1040; Height: 1.75mm; Mouser Part Number: 595-SN65HVD1040DR; Mouser Price/Stock: https://www.mouser.co.uk/ProductDetail/Texas-Instruments/SN65HVD1040DR/?qs=h%2FYsCRHtaqOO7rWtzP6eRQ%3D%3D; Arrow Part Number: SN65HVD1040DR; Arrow Price/Stock: https://www.arrow.com/en/products/sn65hvd1040dr/texas-instruments
footprint SOIC127P600X175-8N
pins: 1 TXD, 2 GND, 3 VCC, 4 RXD, 5 SPLIT, 6 CANL, 7 CANH, 8 STB

## SN74AHCT1G32DBVR
designator IC?
Integrated Circuit; Manufacturer_Name: Texas Instruments; Manufacturer_Part_Number: SN74AHCT1G32DBVR; Datasheet Link: http://www.ti.com/lit/ds/symlink/sn74ahct1g32.pdf; Height: 1.45mm; Mouser Part Number: 595-SN74AHCT1G32DBVR; Mouser Price/Stock: https://www.mouser.co.uk/ProductDetail/Texas-Instruments/SN74AHCT1G32DBVR?qs=0le1rQK8zxpIB8pUTaKa9Q%3D%3D; Arrow Part Number: SN74AHCT1G32DBVR; Arrow Price/Stock: https://www.arrow.com/en/products/sn74ahct1g32dbvr/texas-instruments
footprint SOT95P280X145-5N
pins: 1 A, 2 B, 3 GND, 4 Y, 5 VCC

## SN74AHCT1G125DBVR
designator IC?
Integrated Circuit; Manufacturer_Name: Texas Instruments; Manufacturer_Part_Number: SN74AHCT1G125DBVR; Datasheet Link: http://www.ti.com/lit/ds/symlink/sn74ahct1g125.pdf; Height: 1.45mm; Mouser Part Number: 595-SNAHCT1G125DBVR; Mouser Price/Stock: https://www.mouser.co.uk/ProductDetail/Texas-Instruments/SN74AHCT1G125DBVR?qs=N6WZOzgtpqVaVW8Lh%252BgevA%3D%3D; Arrow Part Number: SN74AHCT1G125DBVR; Arrow Price/Stock: https://www.arrow.com/en/products/sn74ahct1g125dbvr/texas-instruments?region=nac
footprint SOT95P280X145-5N
pins: 1 ~{OE}, 2 A, 3 GND (power), 4 Y, 5 VCC (power)

## SN74AHCT245DW
designator IC?
Integrated Circuit; Manufacturer_Name: Texas Instruments; Manufacturer_Part_Number: SN74AHCT245DW; Datasheet Link: http://www.ti.com/lit/ds/symlink/sn74ahct245.pdf; Height: 2.65mm; Mouser Part Number: 595-SN74AHCT245DW; Mouser Price/Stock: https://www.mouser.co.uk/ProductDetail/Texas-Instruments/SN74AHCT245DW?qs=VolsR0DjNPoXRdqZBm8XLA%3D%3D; Arrow Part Number: SN74AHCT245DW; Arrow Price/Stock: https://www.arrow.com/en/products/sn74ahct245dw/texas-instruments
footprint SOIC127P1030X265-20N
pins: 1 DIR, 2 A1, 3 A2, 4 A3, 5 A4, 6 A5, 7 A6, 8 A7, 9 A8, 10 GND, 11 B8, 12 B7, 13 B6, 14 B5, 15 B4, 16 B3, 17 B2, 18 B1, 19 ~{OE}, 20 VCC

## SN74AHCT245PWR
designator IC?
Integrated Circuit; Manufacturer_Name: Texas Instruments; Manufacturer_Part_Number: SN74AHCT245PWR; Datasheet Link: http://www.ti.com/lit/gpn/sn74ahct245; Height: 1.2mm; Mouser Part Number: 595-SN74AHCT245PWR; Mouser Price/Stock: https://www.mouser.co.uk/ProductDetail/Texas-Instruments/SN74AHCT245PWR?qs=vxEfx8VrU7DerZZBYgV7Yw%3D%3D; Arrow Part Number: SN74AHCT245PWR; Arrow Price/Stock: https://www.arrow.com/en/products/sn74ahct245pwr/texas-instruments?utm_currency=USD&region=nac
footprint SOP65P640X120-20N
pins: 1 DIR, 2 A1, 3 A2, 4 A3, 5 A4, 6 A5, 7 A6, 8 A7, 9 A8, 10 GND, 11 B8, 12 B7, 13 B6, 14 B5, 15 B4, 16 B3, 17 B2, 18 B1, 19 ~{OE}, 20 VCC

## SN74CBT3384ADBR
designator IC?
Integrated Circuit; Manufacturer_Name: Texas Instruments; Manufacturer_Part_Number: SN74CBT3384ADBR; Datasheet Link: http://www.ti.com/lit/gpn/sn74cbt3384a; Height: 2mm; Mouser Part Number: 595-SN74CBT3384ADBR; Mouser Price/Stock: https://www.mouser.co.uk/ProductDetail/Texas-Instruments/SN74CBT3384ADBR?qs=sbcp%2F4gpy08j9G1Ww3V2ww%3D%3D
footprint SOP65P780X200-24N
pins: 1 1~{OE}, 2 1B1, 3 1A1, 4 1A2, 5 1B2, 6 1B3, 7 1A3, 8 1A4, 9 1B4, 10 1B5, 11 1A5, 12 GND, 13 2~{OE}, 14 2A1, 15 2B1, 16 2B2, 17 2A2, 18 2A3, 19 2B3, 20 2B4, 21 2A4, 22 2A5, 23 2B5, 24 VCC

## SN74CBTD3384CDBR
designator IC?
Integrated Circuit; Manufacturer_Name: Texas Instruments; Manufacturer_Part_Number: SN74CBTD3384CDBR; Datasheet Link: http://www.ti.com/lit/gpn/sn74cbtd3384c; Height: 2mm; Mouser Part Number: 595-SN74CBTD3384CDBR; Mouser Price/Stock: https://www.mouser.co.uk/ProductDetail/Texas-Instruments/SN74CBTD3384CDBR?qs=mE33ZKBHyE5HkNXzDF2trA%3D%3D
footprint SOP65P780X200-24N
pins: 1 1~{OE}, 2 1B1, 3 1A1, 4 1A2, 5 1B2, 6 1B3, 7 1A3, 8 1A4, 9 1B4, 10 1B5, 11 1A5, 12 GND, 13 2~{OE}, 14 2A1, 15 2B1, 16 2B2, 17 2A2, 18 2A3, 19 2B3, 20 2B4, 21 2A4, 22 2A5, 23 2B5, 24 VCC

## SN74HC165D
designator IC?
Integrated Circuit; Manufacturer_Name: Texas Instruments; Manufacturer_Part_Number: SN74HC165D; Datasheet Link: http://www.ti.com/lit/ds/symlink/sn74hc165.pdf; Height: 1.75mm; Mouser Part Number: 595-SN74HC165D; Mouser Price/Stock: https://www.mouser.co.uk/ProductDetail/Texas-Instruments/SN74HC165D?qs=bvpNxolhIUOnjW0isDQmuw%3D%3D; Arrow Part Number: SN74HC165D; Arrow Price/Stock: https://www.arrow.com/en/products/sn74hc165d/texas-instruments?region=nac
footprint SOIC127P600X175-16N
pins: 1 SH/~{LD}, 2 CLK, 3 E, 4 F, 5 G, 6 H, 7 ~{QH}, 8 GND, 9 QH, 10 SER, 11 A, 12 B, 13 C, 14 D, 15 CLK_INH, 16 VCC

## SN74HC595D
designator IC?
Integrated Circuit; Manufacturer_Name: Texas Instruments; Manufacturer_Part_Number: SN74HC595D; Datasheet Link: http://www.ti.com/lit/gpn/sn74hc595; Height: 1.75mm; Mouser Part Number: 595-SN74HC595D; Mouser Price/Stock: https://www.mouser.co.uk/ProductDetail/Texas-Instruments/SN74HC595D?qs=IEl3ej0IqwDTFS4%2FHogVVQ%3D%3D; Arrow Part Number: SN74HC595D; Arrow Price/Stock: https://www.arrow.com/en/products/sn74hc595d/texas-instruments?region=nac
footprint SOIC127P600X175-16N
pins: 1 QB, 2 QC, 3 QD, 4 QE, 5 QF, 6 QG, 7 QH, 8 GND, 9 QH', 10 ~{SRCLR}, 11 SRCLK, 12 RCLK, 13 ~{OE}, 14 SER, 15 QA, 16 VCC

## SN74HCT32D
designator IC?
Integrated Circuit; Manufacturer_Name: Texas Instruments; Manufacturer_Part_Number: SN74HCT32D; Datasheet Link: http://www.ti.com/lit/gpn/sn74hct32; Height: 1.75mm; Mouser Part Number: 595-SN74HCT32D; Mouser Price/Stock: https://www.mouser.co.uk/ProductDetail/Texas-Instruments/SN74HCT32D?qs=YEaxc5757jOxUg7Aj9ESVA%3D%3D; Arrow Part Number: SN74HCT32D; Arrow Price/Stock: https://www.arrow.com/en/products/sn74hct32d/texas-instruments
footprint SOIC127P600X175-14N
pins: 1 1A, 2 1B, 3 1Y, 4 2A, 5 2B, 6 2Y, 7 GND, 8 3Y, 9 3A, 10 3B, 11 4Y, 12 4A, 13 4B, 14 VCC

## SN74LVC00AD
designator IC?
Integrated Circuit; Manufacturer_Name: Texas Instruments; Manufacturer_Part_Number: SN74LVC00AD; Datasheet Link: http://www.ti.com/lit/ds/symlink/sn74lvc00a.pdf; Height: 1.75mm; Mouser Part Number: 595-SN74LVC00AD; Mouser Price/Stock: https://www.mouser.co.uk/ProductDetail/Texas-Instruments/SN74LVC00AD?qs=sbcp%2F4gpy0%2FjGS8T41Dt%2Fg%3D%3D; Arrow Part Number: SN74LVC00AD; Arrow Price/Stock: https://www.arrow.com/en/products/sn74lvc00ad/texas-instruments?region=nac
footprint SOIC127P600X175-14N
part A pins: 1 1A, 2 1B, 3 1Y
part B pins: 4 2A, 5 2B, 6 2Y
part C pins: 8 3Y, 9 3A, 10 3B
part D pins: 11 4Y, 12 4A, 13 4B
part E pins: 7 GND, 14 VCC

## SN74LVC1G17DBVRE4
designator IC?
Integrated Circuit; Manufacturer_Name: Texas Instruments; Manufacturer_Part_Number: SN74LVC1G17DBVRE4; Datasheet Link: http://www.ti.com/general/docs/suppproductinfo.tsp?distId=10&gotoUrl=http%3A%2F%2Fwww.ti.com%2Flit%2Fgpn%2Fsn74lvc1g17; Height: 1.45mm; Mouser Part Number: 595-SN74LVC1G17DBVE4; Mouser Price/Stock: https://www.mouser.co.uk/ProductDetail/Texas-Instruments/SN74LVC1G17DBVRE4?qs=pajgIaoyDUhN0rE9ykef9A%3D%3D; Arrow Part Number: SN74LVC1G17DBVRE4; Arrow Price/Stock: https://www.arrow.com/en/products/sn74lvc1g17dbvre4/texas-instruments?region=nac
footprint SOT95P282X145-5N
pins: 1 N.C., 2 A, 3 GND, 4 Y, 5 VCC

## SN74LVC1G32DBVR
designator IC?
Integrated Circuit; Manufacturer_Name: Texas Instruments; Manufacturer_Part_Number: SN74LVC1G32DBVR; Datasheet Link: http://www.ti.com/lit/gpn/sn74lvc1g32; Height: 1.45mm; Mouser Part Number: 595-SN74LVC1G32DBVR; Mouser Price/Stock: https://www.mouser.co.uk/ProductDetail/Texas-Instruments/SN74LVC1G32DBVR?qs=3pnr37ZAbK%2F6ArGi%2FPb2Ng%3D%3D; Arrow Part Number: SN74LVC1G32DBVR; Arrow Price/Stock: https://www.arrow.com/en/products/sn74lvc1g32dbvr/texas-instruments?utm_currency=USD&region=nac
footprint SOT95P280X145-5N
pins: 1 A, 2 B, 3 GND, 4 Y, 5 VCC

## SN74LVC1G38DCKR
designator IC?
Integrated Circuit; Manufacturer_Name: Texas Instruments; Manufacturer_Part_Number: SN74LVC1G38DCKR; Datasheet Link: http://www.ti.com/lit/gpn/sn74lvc1g38; Height: 1.1mm; Mouser Part Number: 595-SN74LVC1G38DCKR; Mouser Price/Stock: https://www.mouser.co.uk/ProductDetail/Texas-Instruments/SN74LVC1G38DCKR?qs=nqigI8dpoHL3khvss%252BSFEA%3D%3D; Arrow Part Number: SN74LVC1G38DCKR; Arrow Price/Stock: https://www.arrow.com/en/products/sn74lvc1g38dckr/texas-instruments
footprint SOT65P210X110-5N
pins: 1 A, 2 B, 3 GND, 4 Y, 5 VCC

## SN74LVC1G175DCKR
designator IC?
Integrated Circuit; Manufacturer_Name: Texas Instruments; Manufacturer_Part_Number: SN74LVC1G175DCKR; Datasheet Link: http://www.ti.com/lit/gpn/sn74lvc1g175; Height: 1.1mm; Mouser Part Number: 595-SN74LVC1G175DCKR; Mouser Price/Stock: https://www.mouser.co.uk/ProductDetail/Texas-Instruments/SN74LVC1G175DCKR?qs=pajgIaoyDUjI2BH1x6CpqQ%3D%3D; Arrow Part Number: SN74LVC1G175DCKR; Arrow Price/Stock: https://www.arrow.com/en/products/sn74lvc1g175dckr/texas-instruments
footprint SOP65P210X110-6N
pins: 1 CLK, 2 GND, 3 D, 4 Q, 5 VCC, 6 ~{CLR}

## SN74LVC1G3157DBVR
designator U?
Integrated Circuit; Manufacturer_Name: Texas Instruments; Manufacturer_Part_Number: SN74LVC1G3157DBVR; Datasheet Link: http://componentsearchengine.com/Datasheets/1/SN74LVC1G3157DBVR.pdf; Height: 1.45mm; Mouser Part Number: 595-SN74LVC1G3157DBV; Mouser Price/Stock: https://www.mouser.co.uk/ProductDetail/Texas-Instruments/SN74LVC1G3157DBVR?qs=PVVDbbWpW3ID6l2sElWeMw%3D%3D; Arrow Part Number: SN74LVC1G3157DBVR; Arrow Price/Stock: https://www.arrow.com/en/products/sn74lvc1g3157dbvr/texas-instruments?region=nac
footprint SOT95P280X145-6N
pins: 1 B2, 2 GND, 3 B1, 4 A, 5 VCC, 6 S

## SN74LVC1T45DBVR
designator IC?
Integrated Circuit; Manufacturer_Name: Texas Instruments; Manufacturer_Part_Number: SN74LVC1T45DBVR; Datasheet Link: https://componentsearchengine.com/Datasheets/2/SN74LVC1T45DBVR.pdf; Height: 1.45mm; Mouser Part Number: 595-SN74LVC1T45DBVR; Mouser Price/Stock: https://www.mouser.co.uk/ProductDetail/Texas-Instruments/SN74LVC1T45DBVR?qs=pajgIaoyDUhg6sKXdsM%2Fvg%3D%3D; Arrow Part Number: SN74LVC1T45DBVR; Arrow Price/Stock: https://www.arrow.com/en/products/sn74lvc1t45dbvr/texas-instruments?region=nac
footprint SOT95P280X145-6N
pins: 1 VCCA, 2 GND, 3 A, 4 B, 5 DIR, 6 VCCB

## SN74LVC2G07DCKR
designator IC?
Integrated Circuit; Manufacturer_Name: Texas Instruments; Manufacturer_Part_Number: SN74LVC2G07DCKR; Datasheet Link: https://datasheet.lcsc.com/szlcsc/Texas-Instruments-TI-SN74LVC2G07DCKR_C7849.pdf; Height: 1.1mm; Mouser Part Number: 595-SN74LVC2G07DCKR; Mouser Price/Stock: https://www.mouser.co.uk/ProductDetail/Texas-Instruments/SN74LVC2G07DCKR?qs=EIjG%252BN7kn%252Bn6uhrXwDLE9Q%3D%3D; Arrow Part Number: SN74LVC2G07DCKR; Arrow Price/Stock: https://www.arrow.com/en/products/sn74lvc2g07dckr/texas-instruments
footprint SamacSys.PcbLib (Footprint not found)
pins: 1 1A, 2 GND, 3 2A, 4 2Y, 5 VCC, 6 1Y

## SN74LVC2G08DCU
designator DD?
IC DUAL 2-IN AND GATE; Manufacturer_Name: Texas Instruments; Datasheet Link: https://datasheet.datasheetarchive.com/originals/distributors/Datasheets-SFU2/DSASFU100028333.pdf; Height: 0.9mm; Manufacturer_Part_Number: SN74LVC2G08DCU
footprint SOP50P310X90-8N
pins: 1 1A, 2 1B, 3 2Y, 4 GND, 5 2A, 6 2B, 7 1Y, 8 VCC

## SN74LVC2G14DBV
designator IC?
Integrated Circuit; Manufacturer_Name: Texas Instruments; Manufacturer_Part_Number: SN74LVC2G14DBV; Datasheet Link: https://datasheet.datasheetarchive.com/originals/distributors/Datasheets-19/DSA-377546.pdf; Height: 1.45mm
footprint SOT95P280X145-6N
pins: 1 1A, 2 GND, 3 2A, 4 2Y, 5 VCC, 6 1Y

## SN74LVC2G34DCK3
designator IC?
Integrated Circuit; Manufacturer_Name: Texas Instruments; Manufacturer_Part_Number: SN74LVC2G34DCK3; Datasheet Link: http://www.ti.com/general/docs/suppproductinfo.tsp?distId=10&gotoUrl=http%3A%2F%2Fwww.ti.com%2Flit%2Fgpn%2Fsn74lvc2g34; Height: 1.1mm; Mouser Part Number: 595-SN74LVC2G34DCK3; Mouser Price/Stock: https://www.mouser.co.uk/ProductDetail/Texas-Instruments/SN74LVC2G34DCK3?qs=gHXEOK8GIg8bTQIZK93WuQ%3D%3D; Arrow Part Number: SN74LVC2G34DCK3; Arrow Price/Stock: https://www.arrow.com/en/products/sn74lvc2g34dck3/texas-instruments?region=nac
footprint SOT65P210X110-6N
pins: 1 1A, 2 GND, 3 2A, 4 2Y, 5 VCC, 6 1Y

## SN74LVC2GU04DBVR
designator IC?
Integrated Circuit; Manufacturer_Name: Texas Instruments; Manufacturer_Part_Number: SN74LVC2GU04DBVR; Datasheet Link: http://www.ti.com/lit/gpn/sn74lvc2gu04; Height: 1.45mm; Mouser Part Number: 595-SN74LVC2GU04DBVR; Mouser Price/Stock: https://www.mouser.co.uk/ProductDetail/Texas-Instruments/SN74LVC2GU04DBVR?qs=rshUhwi3fbZt1WmqSSxmTQ%3D%3D; Arrow Part Number: SN74LVC2GU04DBVR; Arrow Price/Stock: https://www.arrow.com/en/products/sn74lvc2gu04dbvr/texas-instruments?region=nac
footprint SOT95P280X145-6N
pins: 1 1A, 2 GND, 3 2A, 4 2Y, 5 VCC, 6 1Y

## SN74LVC2T45DCTR
designator IC?
Integrated Circuit; Manufacturer_Name: Texas Instruments; Manufacturer_Part_Number: SN74LVC2T45DCTR; Datasheet Link: http://www.ti.com/lit/ds/symlink/sn74lvc2t45.pdf; Height: 1.3mm; Mouser Part Number: 595-SN74LVC2T45DCTR; Mouser Price/Stock: https://www.mouser.co.uk/ProductDetail/Texas-Instruments/SN74LVC2T45DCTR?qs=gb35HGp1gQKxa%252BqqJP05tg%3D%3D; Arrow Part Number: SN74LVC2T45DCTR; Arrow Price/Stock: https://www.arrow.com/en/products/sn74lvc2t45dctr/texas-instruments?region=nac
footprint SOP65P400X130-8N
pins: 1 VCCA, 2 A1, 3 A2, 4 GND, 5 DIR, 6 B2, 7 B1, 8 VCCB

## SN74LVC2T45DCTT
designator IC?
Integrated Circuit; Manufacturer_Name: Texas Instruments; Manufacturer_Part_Number: SN74LVC2T45DCTT; Datasheet Link: http://www.ti.com/lit/ds/symlink/sn74lvc2t45.pdf; Height: 1.3mm; Mouser Part Number: 595-SN74LVC2T45DCTT; Mouser Price/Stock: https://www.mouser.co.uk/ProductDetail/Texas-Instruments/SN74LVC2T45DCTT?qs=0smPjiIwnfJic%2Fy9YmAPjQ%3D%3D; Arrow Part Number: SN74LVC2T45DCTT; Arrow Price/Stock: https://www.arrow.com/en/products/sn74lvc2t45dctt/texas-instruments?region=nac
footprint SOP65P400X130-8N
pins: 1 VCCA, 2 A1, 3 A2, 4 GND, 5 DIR, 6 B2, 7 B1, 8 VCCB

## SN74LVC08AD
designator IC?
Integrated Circuit; Manufacturer_Name: Texas Instruments; Manufacturer_Part_Number: SN74LVC08AD; Datasheet Link: http://www.ti.com/lit/ds/symlink/sn74lvc08a.pdf; Height: 1.75mm; Mouser Part Number: 595-SN74LVC08AD; Mouser Price/Stock: https://www.mouser.co.uk/ProductDetail/Texas-Instruments/SN74LVC08AD?qs=sbcp%2F4gpy0%2FPSAqM7rghPA%3D%3D; Arrow Part Number: SN74LVC08AD; Arrow Price/Stock: https://www.arrow.com/en/products/sn74lvc08ad/texas-instruments.html?utm_currency=USD&region=nac
footprint SOIC127P600X175-14N
pins: 1 1A, 2 1B, 3 1Y, 4 2A, 5 2B, 6 2Y, 7 GND, 8 3Y, 9 3A, 10 3B, 11 4Y, 12 4A, 13 4B, 14 VCC

## SN74LVC8T245DBR
designator H?
Hardware; Manufacturer_Name: Texas Instruments; Manufacturer_Part_Number: SN74LVC8T245DBR; Datasheet Link: http://www.ti.com/lit/gpn/sn74lvc8t245; Height: 2mm; Mouser Part Number: 595-SN74LVC8T245DBR; Mouser Price/Stock: https://www.mouser.co.uk/ProductDetail/Texas-Instruments/SN74LVC8T245DBR?qs=dT9u2OTAaVVUSYF6iZ1h4A%3D%3D; Arrow Part Number: SN74LVC8T245DBR; Arrow Price/Stock: https://www.arrow.com/en/products/sn74lvc8t245dbr/texas-instruments?region=nac
footprint SOP65P780X200-24N
pins: 1 VCCA (power), 2 DIR (in), 3 A1 (io), 4 A2 (io), 5 A3 (io), 6 A4 (io), 7 A5 (io), 8 A6 (io), 9 A7 (io), 10 A8 (io), 11 GND_1 (power), 12 GND_2 (power), 13 GND_3 (power), 14 B8 (io), 15 B7 (io), 16 B6 (io), 17 B5 (io), 18 B4 (io), 19 B3 (io), 20 B2 (io), 21 B1 (io), 22 ~{OE} (in), 23 VCCB_1 (power), 24 VCCB_2 (power)

## SN74LVC126AD
designator IC?
Integrated Circuit; Manufacturer_Name: Texas Instruments; Manufacturer_Part_Number: SN74LVC126AD; Datasheet Link: http://www.ti.com/lit/gpn/SN74LVC126A; Height: 1.75mm; Mouser Part Number: 595-SN74LVC126AD; Mouser Price/Stock: https://www.mouser.co.uk/ProductDetail/Texas-Instruments/SN74LVC126AD?qs=6gY4t2uohMzacn0fnU%252BOeg%3D%3D; Arrow Part Number: SN74LVC126AD; Arrow Price/Stock: https://www.arrow.com/en/products/sn74lvc126ad/texas-instruments?region=nac
footprint SOIC127P600X175-14N
pins: 1 1OE, 2 1A, 3 1Y, 4 2OE, 5 2A, 6 2Y, 7 GND, 8 3Y, 9 3A, 10 3OE, 11 4Y, 12 4A, 13 4OE, 14 VCC

## SP485EEN-L
designator IC?
Integrated Circuit; Manufacturer_Name: MaxLinear; Manufacturer_Part_Number: SP485EEN-L; Datasheet Link: https://componentsearchengine.com/Datasheets/1/SP485EEN-L.pdf; Height: 1.75mm; Mouser Part Number: 701-SP485EEN-L; Mouser Price/Stock: https://www.mouser.co.uk/ProductDetail/MaxLinear/SP485EEN-L?qs=H%252BP%2FcHWii3eBjfJCCluoeQ%3D%3D; Arrow Part Number: SP485EEN-L; Arrow Price/Stock: https://www.arrow.com/en/products/sp485een-l/maxlinear-inc?utm_currency=USD&region=nac
footprint SOIC127P600X175-8N
pins: 1 RO, 2 ~{RE}, 3 DE, 4 DI, 5 GND, 6 A, 7 B, 8 VCC

## SP3002-04JTG
designator IC?
Integrated Circuit; Manufacturer_Name: LITTELFUSE; Manufacturer_Part_Number: SP3002-04JTG; Datasheet Link: https://m.littelfuse.com/~/media/electronics/datasheets/tvs_diode_arrays/littelfuse_tvs_diode_array_sp3002_datasheet.pdf.pdf; Height: 1.1mm; Mouser Part Number: 576-SP3002-04JTG; Mouser Price/Stock: https://www.mouser.co.uk/ProductDetail/Littelfuse/SP3002-04JTG?qs=Xb8IjHhkxj40Q3K%2Fx81Vbw%3D%3D; Arrow Part Number: SP3002-04JTG; Arrow Price/Stock: https://www.arrow.com/en/products/sp3002-04jtg/littelfuse?region=nac
footprint SOT65P220X110-6N
pins: 1 I/O1, 2 GND, 3 I/O2, 4 I/O3, 5 VCC, 6 I/O4

## SP3012-06UTG
designator D?
Diode; Manufacturer_Name: LITTELFUSE; Manufacturer_Part_Number: SP3012-06UTG; Datasheet Link: http://www.mouser.com/datasheet/2/240/Littelfuse_TVS_Diode_Array_SP3012_Datasheet.pdf-268239.pdf; Height: 0.55mm; Mouser Part Number: 576-SP3012-06UTG; Mouser Price/Stock: https://www.mouser.co.uk/ProductDetail/Littelfuse/SP3012-06UTG?qs=Ym0rwzMtR1UCUnrA6KszoQ%3D%3D; Arrow Part Number: SP3012-06UTG; Arrow Price/Stock: https://www.arrow.com/en/products/sp3012-06utg/littelfuse
footprint SP301206UTG (Footprint not found)
pins: 1, 2, 3, 4, 5, 6, 7, 8, 9, 10, 11, 12, 13, 14

## SPAN02A-05
designator PS?
Power Supply, DC/DC, 2W isolated, 9-18В -> 5В, 0.4А; Manufacturer: Mornsun; Part Number: B2405S-2WR3; Help URL: https://static.chipdip.ru/lib/800/DOC059800393.pdf; Price Qty: 10; Price: 1.09
footprint SPAN02A
pins: 1 -VIN, 2 +VIN, 6 +VOUT, 7 -VOUT

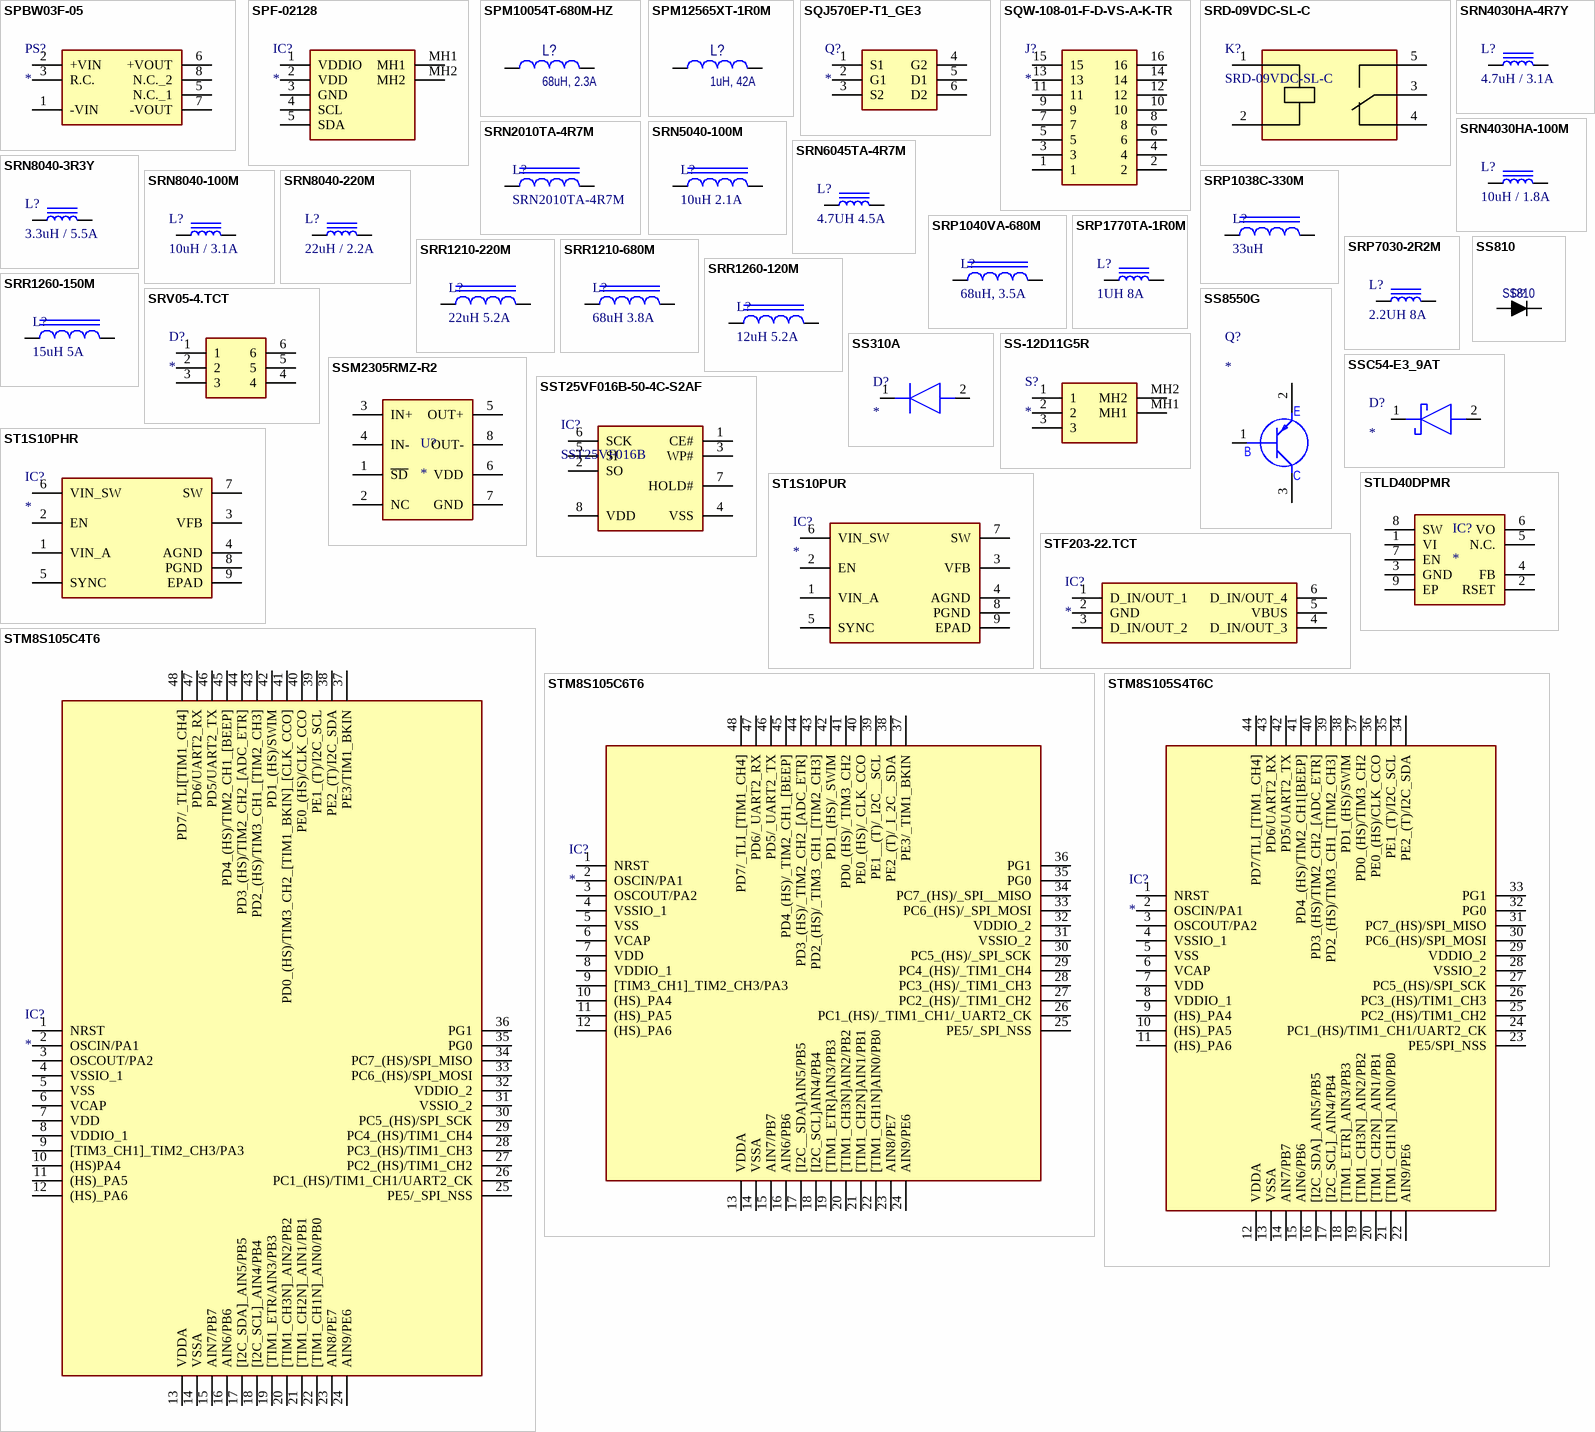
[diagram p40: symbols SPBW03F-05 to STM8S105S4T6C]

## SPBW03F-05
designator PS?
Power Supply; Manufacturer_Name: Mean Well; Manufacturer_Part_Number: SPBW03F-05; Datasheet Link: https://datasheet.datasheetarchive.com/originals/distributors/DKDS-2/37033.pdf; Height: 11.6mm; Mouser Part Number: 709-SPBW03F-05; Mouser Price/Stock: https://www.mouser.co.uk/ProductDetail/MEAN-WELL/SPBW03F-05?qs=5aG0NVq1C4ygTXk%2FgwDM0Q%3D%3D; Arrow Part Number: SPBW03F-05; Arrow Price/Stock: null?region=nac
footprint SPBW06F05
pins: 1 -VIN, 2 +VIN, 3 R.C., 5 N.C._1, 6 +VOUT, 7 -VOUT, 8 N.C._2

## SPF-02128
designator IC?
Integrated Circuit; Manufacturer_Name: SparkFun; Manufacturer_Part_Number: SPF-02128; Datasheet Link: https://www.sparkfun.com/products/retired/11824; Height: 5mm
footprint SPF02128
pins: 1 VDDIO, 2 VDD, 3 GND, 4 SCL, 5 SDA, MH1, MH2

## SPM10054T-680M-HZ
designator L?, comment 68uH, 2.3A
Inductor; Manufacturer: TDK; Manufacturer Part Number: SPM10054T-680M
footprint SPM10054T680MHZR
pins: 1, 2

## SPM12565XT-1R0M
designator L?, comment 1uH, 42A
22A 1uH ±20% 42A SMD,13x12.6mm Power Inductors ROHS; Manufacturer: TDK; Manufacturer Part Number: SPM12565XT-1R0M; Value: 1uH, 22-42A
footprint SPM12565XT
pins: 1, 2

## SQJ570EP-T1_GE3
designator Q?
MOSFET (N-Channel); Manufacturer_Name: Vishay; Manufacturer_Part_Number: SQJ570EP-T1_GE3; Datasheet Link: https://www.vishay.com/docs/76453/sqj570ep.pdf; Mouser Part Number: 78-SQJ570EP-T1_GE3; Mouser Price/Stock: https://www.mouser.co.uk/ProductDetail/Vishay-Siliconix/SQJ570EP-T1_GE3?qs=EBLjwc9jJJsudI%2FJopg3%252BA%3D%3D; Arrow Part Number: SQJ570EP-T1_GE3; Arrow Price/Stock: https://www.arrow.com/en/products/sqj570ep-t1-ge3/vishay?region=nac
footprint SQJ968EPT1GE3
pins: 1 S1, 2 G1, 3 S2, 4 G2, 5 D1, 6 D2

## SQW-108-01-F-D-VS-A-K-TR
designator J?
Connector; Manufacturer_Name: SAMTEC; Manufacturer_Part_Number: SQW-108-01-F-D-VS-A-K-TR; Datasheet Link: http://suddendocs.samtec.com/prints/sqw-1xx-01-xxx-d-vs-xx-xxx-mkt.pdf; Height: 7.75mm; Mouser Part Number: 200-SQW10801FDVSAKTR; Mouser Price/Stock: https://www.mouser.co.uk/ProductDetail/Samtec/SQW-108-01-F-D-VS-A-K-TR?qs=%252BZP6%2F%252BtExtA8vC6mMtyOCQ%3D%3D; Arrow Part Number: SQW-108-01-F-D-VS-A-K-TR; Arrow Price/Stock: https://www.arrow.com/en/products/sqw-108-01-f-d-vs-a-k-tr/samtec?region=nac
footprint SQW-108-01-XX-D-VS-A-K-TR
pins: 1, 2, 3, 4, 5, 6, 7, 8, 9, 10, 11, 12, 13, 14, 15, 16

## SRD-09VDC-SL-C
designator K?
Relay, 9V Coil, Form C; Manufacturer_Name: Ningbo; Datasheet Link: https://www.lcsc.com/product-detail/Power-Relays_Ningbo-Songle-Relay-SRD-09VDC-SL-C_C41595.html; Height: 15.9mm; Manufacturer_Part_Number: SRD-09VDC-SL-C
footprint HF3FD012ZTF257
pins: 1 COIL_1, 2 NC, 3 NO, 4 COIL_2, 5 COM

## SRN2010TA-4R7M
designator L?
SMT Inductor 4.7uH 0.77A; Rated Current: 3.5A; Value: 4.7uH 0.77A
footprint INDC2016X100N
pins: 1, 2

## SRN4030HA-4R7Y
designator L?, comment 4.7uH / 3.1A
SMT Inductor; Value: 4.7uH / 3.1A
footprint SRN4030HA
pins: 1, 2

## SRN4030HA-100M
designator L?, comment 10uH / 1.8A
SMT Inductor; Value: 10uH / 1.8A
footprint SRN4030HA
pins: 1, 2

## SRN5040-100M
designator L?, comment 10uH 2.1A
SMT Inductor 10uH 2.1A; Rated Current: 3.5A; Value: 10uH 2.1A
footprint SRN5040 (Footprint not found)
pins: 1, 2

## SRN6045TA-4R7M
designator L?, comment 4.7UH 4.5A
FIXED IND 4.7UH 4.5A 26 MOHM SMD; Value: 4.7UH 4.5A
footprint SRN6045
pins: 1, 2

## SRN8040-3R3Y
designator L?, comment 3.3uH / 5.5A
SMT Inductor, 3.3uH / 5.5A; Value: 3.3uH / 5.5A
footprint SRN8040
pins: 1, 2

## SRN8040-100M
designator L?, comment 10uH / 3.1A
SMT Inductor, 10uH / 3.1A; Value: 10uH / 3.1A
footprint SRN8040
pins: 1, 2